# Altium schematic symbol library IOBoard.SCHLIB: 117 symbols (part 1 of 2)
Pins are listed as number, name and electrical type; pins without a type are passive.

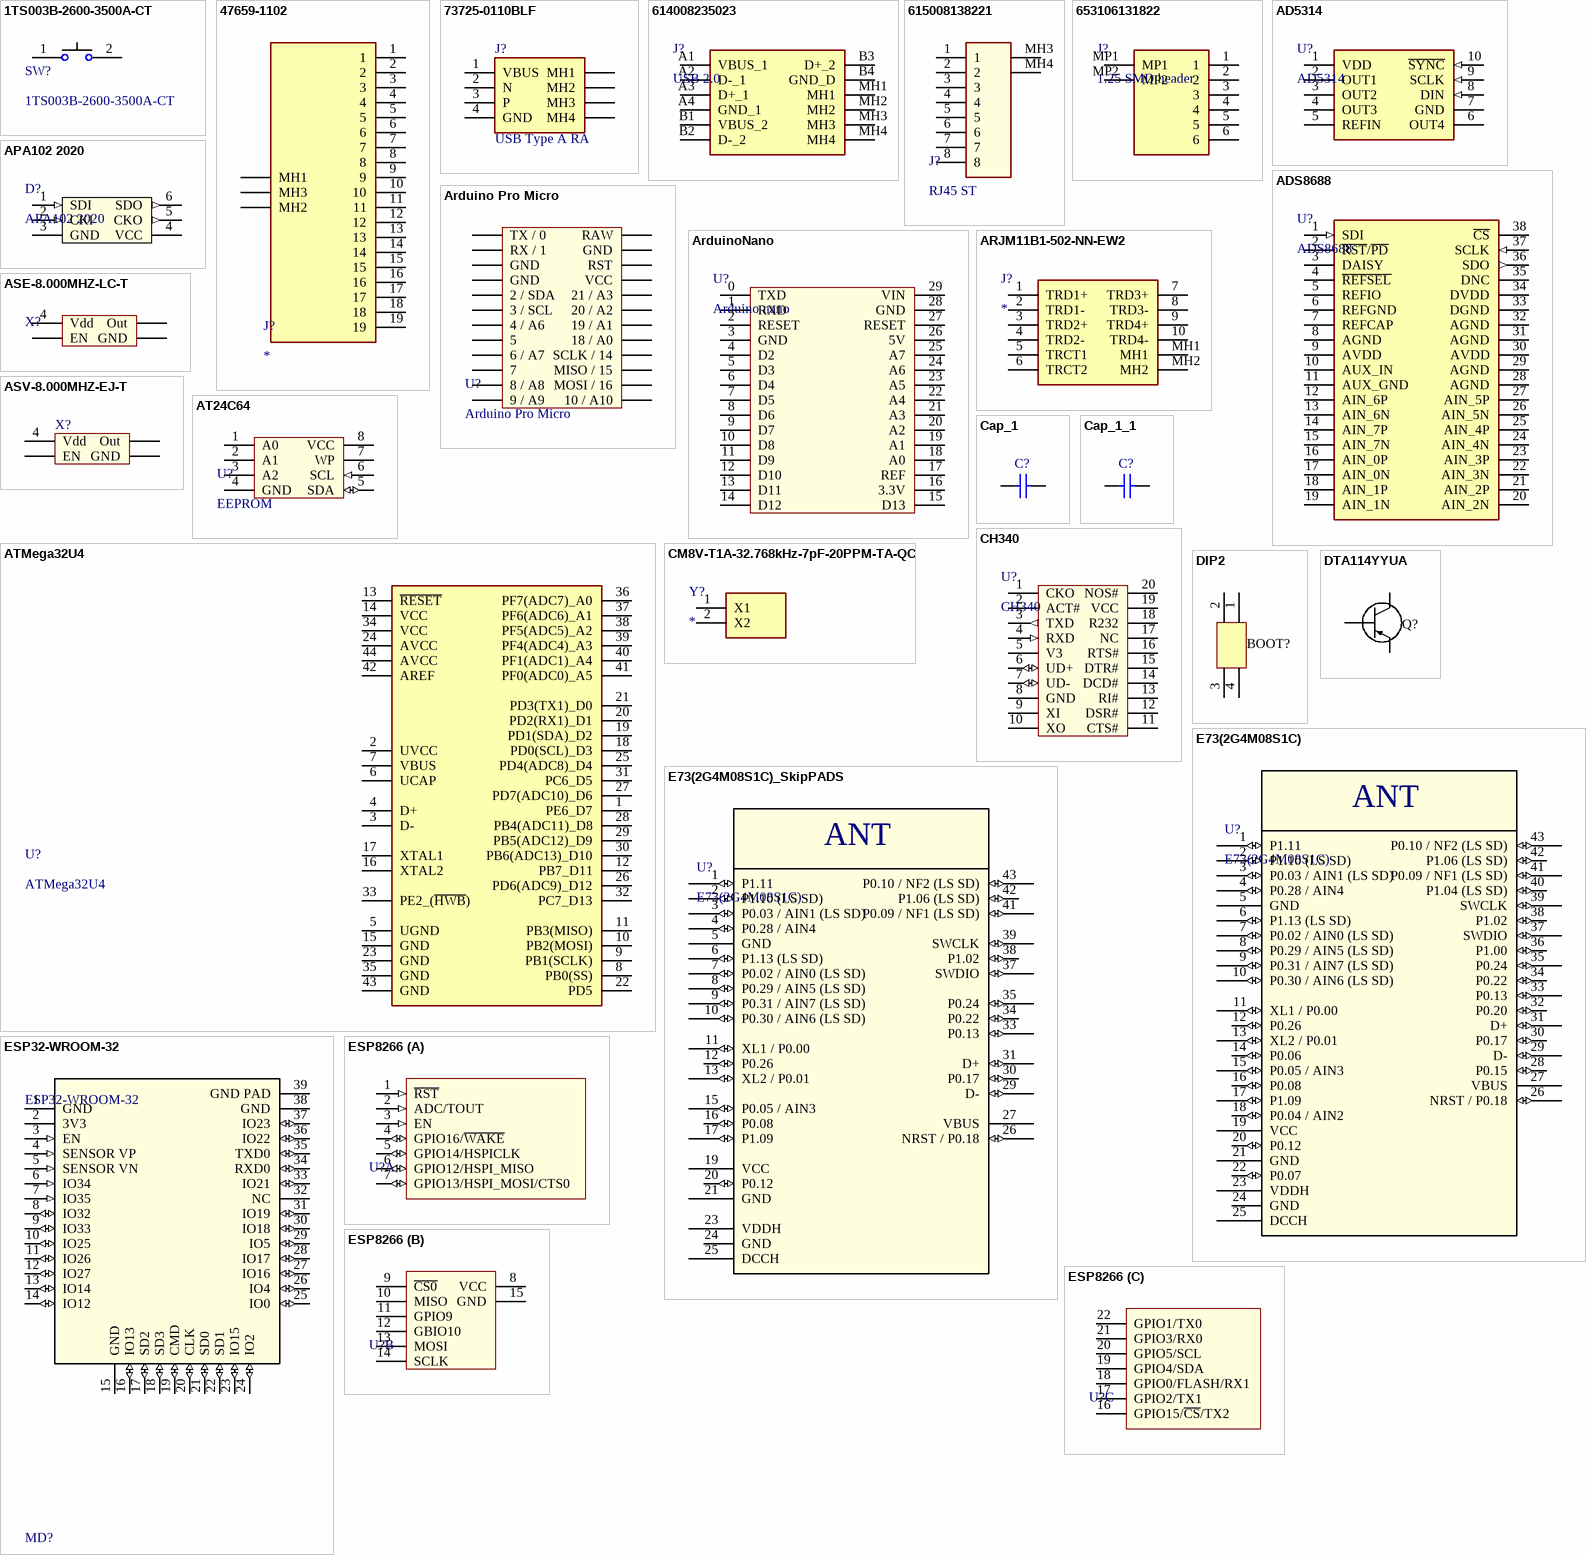
[diagram p0: symbols 1TS003B-2600-3500A-CT to ESP8266]

## 1TS003B-2600-3500A-CT
designator SW?
TACTILE switch 12V 50mA
footprint 1TS003B-2600-3500A-CT (TACT_SW)
pins: 1, 2

## 47659-1102
designator J?
HDMI SMD Vertical Connector; Manufacturer_Name: Molex; Manufacturer_Part_Number: 47659-1102; Datasheet Link: https://www.mouser.com/datasheet/2/276/0476591102_IO_CONNECTORS-1710889.pdf; Height: 8.5mm; Mouser Part Number: 538-47659-1102; Mouser Price/Stock: https://www.mouser.co.uk/ProductDetail/Molex/47659-1102?qs=xZ%2FP%252Ba9zWqbh%252BsszGgwW0w%3D%3D
footprint 476591102 (HDMI Connector)
pins: 1, 2, 3, 4, 5, 6, 7, 8, 9, 10, 11, 12, 13, 14, 15, 16, 17, 18, 19, MH1, MH2, MH3

## 73725-0110BLF
designator J?, comment USB Type A RA
USB Type A right angle straight connector; Manufacturer_Name: Amphenol; Manufacturer_Part_Number: 73725-0110BLF; Allied_Number: 70236758; Datasheet Link: http://uk.rs-online.com/web/p/products/1738660; Height: 14.03mm; RS Part Number: 1738660; RS Price/Stock: http://uk.rs-online.com/web/p/products/1738660
footprint USB_type_A_RA_Vertical
pins: 1 VBUS, 2 N, 3 P, 4 GND, MH1, MH2, MH3, MH4

## 614008235023
designator J?, comment USB 2.0
USB Connectors WR-COM Type A 2x4 Vertcl Dual Feml; Manufacturer_Name: Wurth Elektronik; Manufacturer_Part_Number: 614008235023; Datasheet Link: http://katalog.we-online.de/em/datasheet/614008235023.pdf; Height: 16mm; Mouser Part Number: 710-614008235023; Mouser Price/Stock: https://www.mouser.co.uk/ProductDetail/Wurth-Elektronik/614008235023?qs=rS3zZhy2AQP6TSxAYKTnAw%3D%3D
footprint 614008235023
pins: A1 VBUS_1, A2 D-_1, A3 D+_1, A4 GND_1, B1 VBUS_2, B2 D-_2, B3 D+_2, B4 GND_D, MH1, MH2, MH3, MH4

## 615008138221
designator J?, comment RJ45 ST
RJ45 shielded ST / ssam footprint  as risym
footprint 615008138221 (RJ45 Shielded Straight)
pins: 1, 2, 3, 4, 5, 6, 7, 8, MH3 9, MH4 10

## 653106131822
designator J?, comment 1.25 SMD header
WR-WTB 1.25 mm SMT Male Horizontal Shrouded Header; Manufacturer_Name: Wurth Elektronik; Manufacturer_Part_Number: 653106131822; Datasheet Link: http://katalog.we-online.com/em/datasheet/6531xx131822.pdf; Height: 3.55mm
footprint 653106131822
pins: 1, 2, 3, 4, 5, 6, MP1, MP2

## AD5314
designator U?
10-bit DAC 4 channel
footprint MSOP10_no_EP (MSOP10 package)
pins: 1 VDD (power), 2 OUT1, 3 OUT2, 4 OUT3, 5 REFIN, 6 OUT4, 7 GND (power), 8 DIN (in), 9 SCLK (in), 10 ~{SYNC} (in)

## ADS8688
designator U?
ADC 8 channel, 500KSPS
footprint TSSOP38 (TSSOP 38 pin package)
pins: 1 SDI (in), 2 ~{RST}/~{PD}, 3 DAISY, 4 ~{REFSEL}, 5 REFIO, 6 REFGND (power), 7 REFCAP, 8 AGND (power), 9 AVDD (power), 10 AUX_IN, 11 AUX_GND, 12 AIN_6P, 13 AIN_6N, 14 AIN_7P, 15 AIN_7N, 16 AIN_0P, 17 AIN_0N, 18 AIN_1P, 19 AIN_1N, 20 AIN_2N, 21 AIN_2P, 22 AIN_3N, 23 AIN_3P, 24 AIN_4N, 25 AIN_4P, 26 AIN_5N, 27 AIN_5P, 28 AGND (power), 29 AGND (power), 30 AVDD (power), 31 AGND (power), 32 AGND (power), 33 DGND (power), 34 DVDD (power), 35 DNC, 36 SDO (out), 37 SCLK (in), 38 ~{CS}

## APA102 2020
designator D?
RGB LED 2mm x 2mm
footprint APA102 LED (RGB LED 2x2mm)
pins: 1 SDI (in), 2 CKI (in), 3 GND (power), 4 VCC (power), 5 CKO (out), 6 SDO (out)

## Arduino Pro Micro
designator U?
footprint Arduino Pro Module
pins: 1 TX / 0 (power), 2 RX / 1 (power), 3 GND (power), 4 GND (power), 5 2 / SDA (power), 6 3 / SCL (power), 7 4 / A6 (power), 8 5 (power), 9 6 / A7 (power), 10 7 (power), 11 8 / A8 (power), 12 9 / A9 (power), 13 10 / A10 (power), 14 MOSI / 16 (power), 15 MISO / 15 (power), 16 SCLK / 14 (power), 17 18 / A0 (power), 18 19 / A1 (power), 19 20 / A2 (power), 20 21 / A3 (power), 21 VCC (power), 22 RST (power), 23 GND (power), 24 RAW (power)

## ArduinoNano
designator U?, comment Arduino nano
Arduino nano shield pin out
footprint Arduino_Nano
pins: 0 TXD, 1 RXD, 2 RESET, 3 GND, 4 D2, 5 D3, 6 D4, 7 D5, 8 D6, 9 D7, 10 D8, 11 D9, 12 D10, 13 D11, 14 D12, 15 D13, 16 3.3V, 17 REF, 18 A0, 19 A1, 20 A2, 21 A3, 22 A4, 23 A5, 24 A6, 25 A7, 26 5V, 27 RESET, 28 GND, 29 VIN

## ARJM11B1-502-NN-EW2
designator J?
Connector; Manufacturer_Name: ABRACON; Manufacturer_Part_Number: ARJM11B1-502-NN-EW2; Datasheet Link: https://www.mouser.com/datasheet/2/3/ARJM11-1145012.pdf; Height: 13.6mm; Mouser Part Number: 815-RJM11B1502NNEW2; Mouser Price/Stock: https://www.mouser.co.uk/ProductDetail/ABRACON/ARJM11B1-502-NN-EW2?qs=YCa%2FAAYMW03wpRniPtLh%2FQ%3D%3D; Arrow Part Number: ARJM11B1-502-NN-EW2; Arrow Price/Stock: https://www.arrow.com/en/products/arjm11b1-502-nn-ew2/abracon
footprint ARJM11C7-502-AB-ER2-T-MFG
pins: 1 TRD1+, 2 TRD1-, 3 TRD2+, 4 TRD2-, 5 TRCT1, 6 TRCT2, 7 TRD3+, 8 TRD3-, 9 TRD4+, 10 TRD4-, MH1, MH2

## ASE-8.000MHZ-LC-T
designator X?  (value not drawn)
8MHz; ComponentLink1Description: Datasheet; ComponentLink1URL: https://www.mouser.hk/ProductDetail/ABRACON/ASE-8000MHZ-LC-T?qs=ShQ8XZQtgRsRMJ3lmGY0Sw%3D%3D
footprint ASE Series (Footprint used for ASE SERIES standard clock oscillator)
pins: 1 EN "Tri-state enable disable", 2 GND, 3 Out, 4 Vdd

## ASV-8.000MHZ-EJ-T
designator X?  (value not drawn)
3.3Vdc HCMOS SMD Crystal Clock Oscillator; Manufacturer: Abracon; VDD: 3.3V; Frequency: 8.000MHz
footprint ASV SERIES (Footprint used for ASV SERIES standard clock oscillator)
pins: 1 EN "Tri-state enable disable", 2 GND, 3 Out, 4 Vdd

## AT24C64
designator U?, comment EEPROM
64K EEPROM
footprint SOP8
footprint SOIC127P600X175-8AN (SOIC, 8-Leads, Body 4.9x3.9mm, Pitch 1.27mm, IPC Medium Density)
pins: 1 A0, 2 A1, 3 A2, 4 GND (power), 5 SDA (io), 6 SCL (in), 7 WP, 8 VCC (power)

## ATMega32U4
designator U?
3.3V 8MHz, 5V 16MHz for operation
footprint QFP80P900X900X120-32N
pins: 1 PE6_D7, 2 UVCC, 3 D-, 4 D+, 5 UGND, 6 UCAP, 7 VBUS, 8 PB0(SS), 9 PB1(SCLK), 10 PB2(MOSI), 11 PB3(MISO), 12 PB7_D11, 13 ~{RESET}, 14 VCC, 15 GND, 16 XTAL2, 17 XTAL1, 18 PD0(SCL)_D3, 19 PD1(SDA)_D2, 20 PD2(RX1)_D1, 21 PD3(TX1)_D0, 22 PD5, 23 GND, 24 AVCC, 25 PD4(ADC8)_D4, 26 PD6(ADC9)_D12, 27 PD7(ADC10)_D6, 28 PB4(ADC11)_D8, 29 PB5(ADC12)_D9, 30 PB6(ADC13)_D10, 31 PC6_D5, 32 PC7_D13, 33 PE2_(~{HWB}), 34 VCC, 35 GND, 36 PF7(ADC7)_A0, 37 PF6(ADC6)_A1, 38 PF5(ADC5)_A2, 39 PF4(ADC4)_A3, 40 PF1(ADC1)_A4, 41 PF0(ADC0)_A5, 42 AREF, 43 GND, 44 AVCC

## Cap_1
designator C?, comment Cap  (value not drawn)
Capacitor; Value: 10u; Published: 8-Jun-2000; LatestRevisionDate: 17-Jul-2002; LatestRevisionNote: Re-released for DXP Platform.; PackageReference: RAD-0.3; Publisher: Altium Limited; PackageDescription: Radial Cap, Thru-Hole; 2 Leads; 0.3 in Pin Spacing
footprint RAD-0.3 (Radial Cap, Thru-Hole; 2 Leads; 0.3 in Pin Spacing)
simulation model CAP (Capacitor)
signal-integrity model Cap
footprint CAPC3216X175N (Chip Capacitor, Body 3.2x1.6mm, 1.75mm H, EIA 1206, IPC Medium Density)
footprint CAPC2012X135N (Chip Capacitor, Body 2.0x1.2mm, EIA 0805, IPC Medium Density)
footprint CAPC1608X90N (Chip Capacitor, Body 1.6x0.8mm, EIA 0603, IPC Medium Density)
pins: 1, 2

## Cap_1_1
designator C?, comment Cap  (value not drawn)
Capacitor; Value: 4.7u; Published: 8-Jun-2000; LatestRevisionDate: 17-Jul-2002; LatestRevisionNote: Re-released for DXP Platform.; PackageReference: RAD-0.3; Publisher: Altium Limited; PackageDescription: Radial Cap, Thru-Hole; 2 Leads; 0.3 in Pin Spacing
footprint RAD-0.3 (Radial Cap, Thru-Hole; 2 Leads; 0.3 in Pin Spacing)
simulation model CAP (Capacitor)
signal-integrity model Cap
footprint CAPC3216X175N (Chip Capacitor, Body 3.2x1.6mm, 1.75mm H, EIA 1206, IPC Medium Density)
pins: 1, 2

## CH340
designator U?
USB to UART transciever
footprint SOP20
pins: 1 CKO, 2 ACT#, 3 TXD (out), 4 RXD (in), 5 V3 (power), 6 UD+ (io), 7 UD- (io), 8 GND, 9 XI, 10 XO, 11 CTS#, 12 DSR#, 13 RI#, 14 DCD#, 15 DTR#, 16 RTS#, 17 NC, 18 R232, 19 VCC (power), 20 NOS#

## CM8V-T1A-32.768kHz-7pF-20PPM-TA-QC
designator Y?
32kHz Crystal or Oscillator; Manufacturer_Name: Micro Crystal AG; Manufacturer_Part_Number: CM8V-T1A-32.768kHz-7pF-20PPM-TA-QC; Datasheet Link: https://www.mouser.de/datasheet/2/530/CM8V_T1A-1510858.pdf; Height: 0.6mm; Mouser Part Number: 428-201436-MC01; Mouser Price/Stock: https://www.mouser.co.uk/ProductDetail/Micro-Crystal/CM8V-T1A-32768kHz-7pF-20PPM-TA-QC?qs=7bTaA%2FLYtSYyZWzzv04BxA%3D%3D
footprint CM8V32768TA020125
pins: 1 X1, 2 X2

## DIP2
designator BOOT?, comment DIP 2 position switch  (value not drawn)
footprint DIP2-SWT
pins: 1, 2, 3, 4

## DTA114YYUA
designator Q?  (value not drawn)
PNP -100mA -50V Digital Transistor (Bias Resistor Built-in Transistor); Manufacturer: ROHM
footprint SOT323 (Small outline 2.1mm L x 1.25mm W x 1.1mm H; 3 lead SC70, EIAJ SC-70, SOT323)
pins: 1 B "base", 2 E "Emitter", 3 C "Collector"

## E73(2G4M08S1C)
designator U?
nRF52480 module from taobao; ComponentLink1Description: Taobao; ComponentLink1URL: https://item.taobao.com/item.htm?spm=a1z02.1.2016030118.d2016038.hHY5VD&id=521330374834&scm=1007.10157.81291.100200300000000&pvid=aa85dd00-51f4-4baa-a4bf-cd488740a8e2; ComponentLink2Description: Manufacture; ComponentLink2URL: https://www.ebyte.com/product-view-news.html?id=444
footprint E73(2G4M08S1C)
pins: 1 P1.11 (io), 2 P1.10 (LS SD) (io), 3 P0.03 / AIN1 (LS SD) (io), 4 P0.28 / AIN4 (io), 5 GND (power), 6 P1.13 (LS SD) (io), 7 P0.02 / AIN0 (LS SD) (io), 8 P0.29 / AIN5 (LS SD) (io), 9 P0.31 / AIN7 (LS SD) (io), 10 P0.30 / AIN6 (LS SD) (io), 11 XL1 / P0.00 (io), 12 P0.26 (io), 13 XL2 / P0.01 (io), 14 P0.06 (io), 15 P0.05 / AIN3  (io), 16 P0.08 (io), 17 P1.09 (io), 18 P0.04 / AIN2 (io), 19 VCC (power), 20 P0.12 (io), 21 GND (power), 22 P0.07 (io), 23 VDDH (power), 24 GND (power), 25 DCCH (power), 26 NRST / P0.18 (io), 27 VBUS (power), 28 P0.15 (io), 29 D- (io), 30 P0.17 (io), 31 D+ (io), 32 P0.20 (io), 33 P0.13 (io), 34 P0.22 (io), 35 P0.24 (io), 36 P1.00 (io), 37 SWDIO (io), 38 P1.02 (io), 39 SWCLK (io), 40 P1.04 (LS SD) (io), 41 P0.09 / NF1 (LS SD) (io), 42 P1.06 (LS SD) (io), 43 P0.10 / NF2 (LS SD) (io)
text: ANT

## E73(2G4M08S1C)_SkipPADS
designator U?, comment E73(2G4M08S1C)
nRF52480 module from taobao; ComponentLink1Description: Taobao; ComponentLink1URL: https://item.taobao.com/item.htm?spm=a1z02.1.2016030118.d2016038.hHY5VD&id=521330374834&scm=1007.10157.81291.100200300000000&pvid=aa85dd00-51f4-4baa-a4bf-cd488740a8e2; ComponentLink2Description: Manufacture; ComponentLink2URL: https://www.ebyte.com/product-view-news.html?id=444
footprint E73(2G4M08S1C)_skippedPADS
pins: 1 P1.11 (io), 2 P1.10 (LS SD) (io), 3 P0.03 / AIN1 (LS SD) (io), 4 P0.28 / AIN4 (io), 5 GND (power), 6 P1.13 (LS SD) (io), 7 P0.02 / AIN0 (LS SD) (io), 8 P0.29 / AIN5 (LS SD) (io), 9 P0.31 / AIN7 (LS SD) (io), 10 P0.30 / AIN6 (LS SD) (io), 11 XL1 / P0.00 (io), 12 P0.26 (io), 13 XL2 / P0.01 (io), 15 P0.05 / AIN3  (io), 16 P0.08 (io), 17 P1.09 (io), 19 VCC (power), 20 P0.12 (io), 21 GND (power), 23 VDDH (power), 24 GND (power), 25 DCCH (power), 26 NRST / P0.18 (io), 27 VBUS (power), 29 D- (io), 30 P0.17 (io), 31 D+ (io), 33 P0.13 (io), 34 P0.22 (io), 35 P0.24 (io), 37 SWDIO (io), 38 P1.02 (io), 39 SWCLK (io), 41 P0.09 / NF1 (LS SD) (io), 42 P1.06 (LS SD) (io), 43 P0.10 / NF2 (LS SD) (io)
text: ANT

## ESP32-WROOM-32
designator MD?
RX TXRX MOD WIFI SURFACE MOUNT; Frequency: 2.5GHz; Sensitivity: -98dBm; Operating Supply Voltage: 3.6V; Data Rate: 150Mbps; Weight: 0.088185oz; Package Quantity: 550; Min Operating Temperature: -40°C; Mount: Surface Mount; Max Operating Temperature: 85°C; Packaging: Cut Tape; Case/Package: SMD/SMT
footprint ESP32-WROOM-32-MFG
pins: 1 GND (power), 2 3V3 (power), 3 EN (in), 4 SENSOR VP (in), 5 SENSOR VN (in), 6 IO34 (in), 7 IO35 (in), 8 IO32 (io), 9 IO33 (io), 10 IO25 (io), 11 IO26 (io), 12 IO27 (io), 13 IO14 (io), 14 IO12 (io), 15 GND (power), 16 IO13 (io), 17 SD2 (io), 18 SD3 (io), 19 CMD (io), 20 CLK (io), 21 SD0 (io), 22 SD1 (io), 23 IO15 (io), 24 IO2 (io), 25 IO0 (io), 26 IO4 (io), 27 IO16 (io), 28 IO17 (io), 29 IO5 (io), 30 IO18 (io), 31 IO19 (io), 32 NC, 33 IO21 (io), 34 RXD0 (io), 35 TXD0 (io), 36 IO22 (io), 37 IO23 (io), 38 GND (power), 39 GND PAD (power)

## ESP8266
designator U?  (value not drawn)
ESP8266 with IoT Stuff; VCC: 3.3V
footprint ESP-12E
part A pins: 1 ~{RST} (in), 2 ADC/TOUT (in), 3 EN (in), 4 GPIO16/~{WAKE} (io), 5 GPIO14/HSPICLK (io), 6 GPIO12/HSPI_MISO (io), 7 GPIO13/HSPI_MOSI/CTS0 (io)
part B pins: 8 VCC (power), 9 ~{CS0} (power), 10 MISO (power), 11 GPIO9 (power), 12 GBIO10 (power), 13 MOSI (power), 14 SCLK (power), 15 GND (power)
part C pins: 16 GPIO15/~{CS}/TX2 (power), 17 GPIO2/TX1 (power), 18 GPIO0/FLASH/RX1 (power), 19 GPIO4/SDA (power), 20 GPIO5/SCL (power), 21 GPIO3/RX0 (power), 22 GPIO1/TX0 (power)

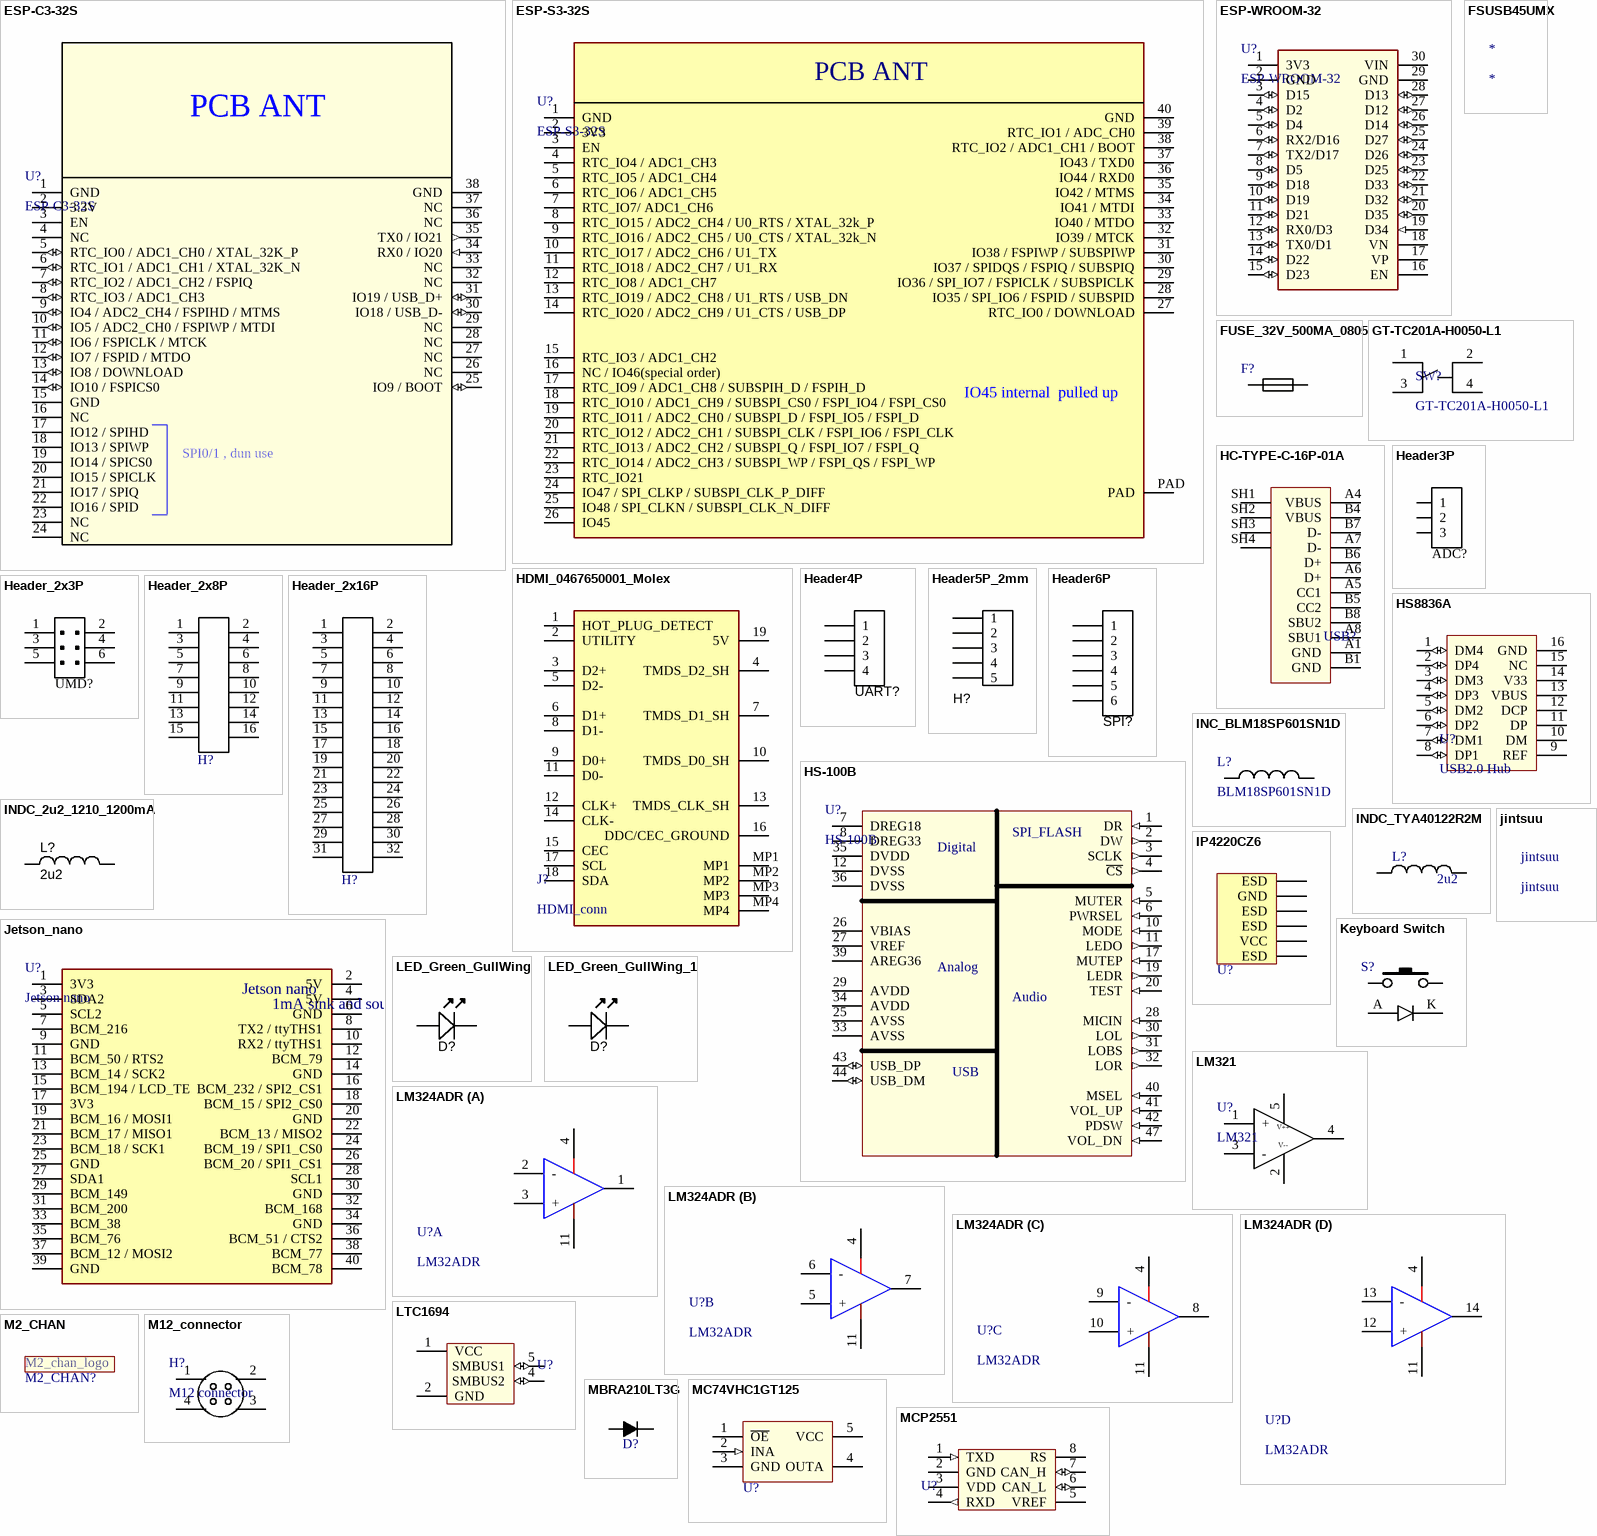
[diagram p1: symbols ESP-C3-32S to MCP2551]

## ESP-C3-32S
designator U?
ESP-C3-32S from AI-thinker
footprint ESP-C3-32S (ESP-S3-32S footprint for AI-Thinker Module)
pins: 1 GND (power), 2 3.3V (power), 3 EN (power), 4 NC (power), 5 RTC_IO0 / ADC1_CH0 / XTAL_32K_P (io), 6 RTC_IO1 / ADC1_CH1 / XTAL_32K_N (io), 7 RTC_IO2 / ADC1_CH2 / FSPIQ (io), 8 RTC_IO3 / ADC1_CH3 (io), 9 IO4 / ADC2_CH4 / FSPIHD / MTMS (io), 10 IO5 / ADC2_CH0 / FSPIWP / MTDI (io), 11 IO6 / FSPICLK / MTCK (io), 12 IO7 / FSPID / MTDO (io), 13 IO8 / DOWNLOAD (io), 14 IO10 / FSPICS0 (io), 15 GND (power), 16 NC (power), 17 IO12 / SPIHD (power), 18 IO13 / SPIWP (power), 19 IO14 / SPICS0 (power), 20 IO15 / SPICLK (power), 21 IO17 / SPIQ (power), 22 IO16 / SPID (power), 23 NC, 24 NC, 25 IO9 / BOOT (io), 26 NC, 27 NC, 28 NC, 29 NC, 30 IO18 / USB_D- (io), 31 IO19 / USB_D+ (io), 32 NC, 33 NC, 34 RX0 / IO20 (in), 35 TX0 / IO21 (out), 36 NC, 37 NC, 38 GND (power)
text: PCB ANT; SPI0/1 , dun use

## ESP-S3-32S
designator U?
ESP-S3-32S from AI-thinker w/ 8MB Flash; Manufacturer_Name: Espressif Systems; Manufacturer_Part_Number: ESP32-S3-WROOM-1; Datasheet Link: https://www.mouser.com/catalog/specsheets/Espressif_ESP32_S3_WROOM_1_1U_Preliminary.pdf; Height: 3.25mm
footprint ESP32S3WROOM1
pins: 1 GND, 2 3V3, 3 EN, 4 RTC_IO4 / ADC1_CH3, 5 RTC_IO5 / ADC1_CH4, 6 RTC_IO6 / ADC1_CH5, 7 RTC_IO7/ ADC1_CH6, 8 RTC_IO15 / ADC2_CH4 / U0_RTS / XTAL_32k_P, 9 RTC_IO16 / ADC2_CH5 / U0_CTS / XTAL_32k_N, 10 RTC_IO17 / ADC2_CH6 / U1_TX, 11 RTC_IO18 / ADC2_CH7 / U1_RX, 12 RTC_IO8 / ADC1_CH7, 13 RTC_IO19 / ADC2_CH8 / U1_RTS / USB_DN, 14 RTC_IO20 / ADC2_CH9 / U1_CTS / USB_DP, 15 RTC_IO3 / ADC1_CH2, 16 NC / IO46(special order), 17 RTC_IO9 / ADC1_CH8 / SUBSPIH_D / FSPIH_D, 18 RTC_IO10 / ADC1_CH9 / SUBSPI_CS0 / FSPI_IO4 / FSPI_CS0, 19 RTC_IO11 / ADC2_CH0 / SUBSPI_D / FSPI_IO5 / FSPI_D, 20 RTC_IO12 / ADC2_CH1 / SUBSPI_CLK / FSPI_IO6 / FSPI_CLK, 21 RTC_IO13 / ADC2_CH2 / SUBSPI_Q / FSPI_IO7 / FSPI_Q, 22 RTC_IO14 / ADC2_CH3 / SUBSPI_WP / FSPI_QS / FSPI_WP, 23 RTC_IO21, 24 IO47 / SPI_CLKP / SUBSPI_CLK_P_DIFF, 25 IO48 / SPI_CLKN / SUBSPI_CLK_N_DIFF, 26 IO45, 27 RTC_IO0 / DOWNLOAD, 28 IO35 / SPI_IO6 / FSPID / SUBSPID, 29 IO36 / SPI_IO7 / FSPICLK / SUBSPICLK, 30 IO37 / SPIDQS / FSPIQ / SUBSPIQ, 31 IO38 / FSPIWP / SUBSPIWP, 32 IO39 / MTCK, 33 IO40 / MTDO, 34 IO41 / MTDI, 35 IO42 / MTMS, 36 IO44 / RXD0, 37 IO43 / TXD0, 38 RTC_IO2 / ADC1_CH1 / BOOT, 39 RTC_IO1 / ADC_CH0, 40 GND, PAD
text: PCB ANT; IO45 internal  pulled up

## ESP-WROOM-32
designator U?
ESP-WROOM-32 MODULE; ComponentLink1Description: taobao; ComponentLink1URL: *https://item.taobao.com/item.htm?spm=a230r.1.14.91.721985a3302TG9&id=564776492972&ns=1&abbucket=9#detail
footprint ESP_WROOM_32 (ESP WROOM 32 SHIELD pinout)
footprint ESP_WROOM_32_SMD
pins: 1 3V3 (power), 2 GND (power), 3 D15 (io), 4 D2 (io), 5 D4 (io), 6 RX2/D16 (io), 7 TX2/D17 (io), 8 D5 (io), 9 D18 (io), 10 D19 (io), 11 D21 (io), 12 RX0/D3 (io), 13 TX0/D1 (io), 14 D22 (io), 15 D23 (io), 16 EN, 17 VP, 18 VN, 19 D34 (in), 20 D35 (io), 21 D32 (io), 22 D33 (io), 23 D25 (io), 24 D26 (io), 25 D27 (io), 26 D14 (io), 27 D12 (io), 28 D13 (io), 29 GND (power), 30 VIN (power)

## FSUSB45UMX
designator *

## FUSE_32V_500MA_0805
designator F?, comment MFU0805FF00500P100  (value not drawn)
fuse 32V 0.5A
footprint RESC2012X70N
pins: 1, 2

## GT-TC201A-H0050-L1
designator SW?
TACT Switch
footprint SW_TACT_3x2.8
pins: 1 (power), 2 (power), 3 (power), 4 (power)

## HC-TYPE-C-16P-01A
designator USB?, comment USB type C connector  (value not drawn)
ComponentLink1Description: Datasheet; ComponentLink1URL: https://lcsc.com/product-detail/USB-Type-C_Korean-Hroparts-Elec-TYPE-C-31-M-12_C165948.html
footprint TYPE-C-31-M-12 (type C connector)
pins: A1 GND (power), A4 VBUS (power), A5 CC1 (power), A6 D+ (power), A7 D- (power), A8 SBU1 (power), B1 GND (power), B4 VBUS (power), B5 CC2 (power), B6 D+ (power), B7 D- (power), B8 SBU2 (power), SH1 (power), SH2 (power), SH3 (power), SH4 (power)

## HDMI_0467650001_Molex
designator J?, comment HDMI_conn
SMD HDMI Port
footprint HDMI_0467650001_Molex (hdmi connector SMD)
pins: 1 HOT_PLUG_DETECT, 2 UTILITY, 3 D2+, 4 TMDS_D2_SH, 5 D2-, 6 D1+, 7 TMDS_D1_SH, 8 D1-, 9 D0+, 10 TMDS_D0_SH, 11 D0-, 12 CLK+, 13 TMDS_CLK_SH, 14 CLK-, 15 CEC, 16 DDC/CEC_GROUND, 17 SCL, 18 SDA, 19 5V, MP1, MP2, MP3, MP4

## Header3P
designator ADC?, comment Header  (value not drawn)
Header 3-pin
footprint 1x3POS_HEADER (Connector Header, Single-row 3-position, 0.100" pitch)
footprint 1x3POS_HEADER_LOWPROF (Connector Header, Single-row 3-position, 0.100" pitch)
footprint 1x3POS_HEAD-SOCK_LOWPROF (Connector Socket with header, Single-row 3-position, 0.100" pitch)
footprint 3P_HDR_OPTO (Connector; screwterm; 3 Position)
pins: 1, 2, 3

## Header4P
designator UART?, comment Programmer  (value not drawn)  (no BOM)
Header 4-pin
footprint HDR1X4_1.27MMP (Connector; Header; 4 Position, 0.050" pitch)
footprint HDR1X4_2.54MMP (Connector; Header; 4 Position 0.100" pitch)
footprint CONN_FLATFLEX_4C_1MMP_5MML
footprint CONN_FLATFLEX_4C_1MMP_3MML_TOP
footprint CONN_FLATFLEX_4C_1MMP_3MML_BOT
pins: 1, 2, 3, 4

## Header5P_2mm
designator H?, comment 2mm 5P  (value not drawn)  (no BOM)
Header5P_2mm
footprint HDR_1X5_2.00MM (5 position striaght 2mm pitch)
pins: 1, 2, 3, 4, 5

## Header6P
designator SPI?, comment Programmer  (value not drawn)  (no BOM)
Header, 6-pin
footprint HDR1X6 (Connector; Header; 6 Position)
pins: 1, 2, 3, 4, 5, 6

## Header_2x3P
designator UMD?, comment Header, 2x3-pin  (value not drawn)
footprint HDR2X3_2.54MMP_RA (2 x 3 pin header right angle)
pins: 1, 2, 3, 4, 5, 6

## Header_2x8P
designator H?, comment Header  (value not drawn)
Header, 2x8-pin
footprint 2x8P_HEADER_FLIP (2 x 8 pins header lol)
footprint 2x8P_HEADER (2 x 8 pins header lol)
pins: 1, 2, 3, 4, 5, 6, 7, 8, 9, 10, 11, 12, 13, 14, 15, 16

## Header_2x16P
designator H?, comment Header  (value not drawn)
Header, 2x16-Pin
footprint 2X16_HEADER_FLIP
footprint 2X16_HEADER
pins: 1, 2, 3, 4, 5, 6, 7, 8, 9, 10, 11, 12, 13, 14, 15, 16, 17, 18, 19, 20, 21, 22, 23, 24, 25, 26, 27, 28, 29, 30, 31, 32

## HS8836A
designator U?, comment USB2.0 Hub
USB Hub
footprint SO16
pins: 1 DM4 (io), 2 DP4 (io), 3 DM3 (io), 4 DP3 (io), 5 DM2 (io), 6 DP2 (io), 7 DM1 (io), 8 DP1 (io), 9 REF, 10 DM, 11 DP, 12 DCP, 13 VBUS (power), 14 V33 (power), 15 NC, 16 GND (power)

## HS-100B
designator U?
HS-100B USB to DAC and ADC
footprint LQFP-48_N (Thin QFP, 48-Leads, Body 7x7mm, Pitch 0.5mm, IPC Medium Density)
pins: 1 DR (in), 2 DW (out), 3 SCLK (out), 4 ~{CS} (out), 5 MUTER (in), 6 PWRSEL (in), 7 DREG18 (power), 8 DREG33 (power), 10 MODE (in), 11 LEDO (out), 12 DVSS (power), 17 MUTEP (in), 19 LEDR (out), 20 TEST (in), 25 AVSS (power), 26 VBIAS (power), 27 VREF (power), 28 MICIN (in), 29 AVDD (power), 30 LOL (out), 31 LOBS (out), 32 LOR (out), 33 AVSS (power), 34 AVDD (power), 35 DVDD (power), 36 DVSS (power), 39 AREG36 (power), 40 MSEL (in), 41 VOL_UP (in), 42 PDSW (in), 43 USB_DP (io), 44 USB_DM (io), 47 VOL_DN (in)
text: SPI_FLASH; Digital; Analog; Audio; USB

## INC_BLM18SP601SN1D
designator L?, comment BLM18SP601SN1D
Ferritebead 1.5A, max 600ohm resistance
footprint INDC1608N (Chip bead, Body 1.6x0.8mm, 0603, IPC Medium Density)
pins: 1, 2

## INDC_2u2_1210_1200mA
designator L?, comment value 2u2  (hidden comment: NLCV32T)
Inductor 2.2uH 1.2A 1210 SMD chip; Manufacturer 1: TDK Corporation; Manufacturer Part Number 1: NLCV32T-2R2M-PFR; Ratings: 1.2 Adc; Tolerance: ±20%; Type: Ferrite Core; DC Resistance (DCR): 115 mOhm; Q @ Freq: 15 @ 7.96MHz; Frequency - Self Resonant: 68MHz; Frequency - Test: 7.96MHz; SCDType: source; Package / Case: 1210 (3225 Metric); Supplier 1: Digi-Key; Supplier Part Number 1: 445-3650-1-ND; ComponentLink1URL: http://www.tdk.co.jp/tefe02/e511_nlcv_nlc.pdf; ComponentLink1Description: http://www.tdk.co.jp/tefe02/e511_nlcv_nlc.pdf; Operating Temperature: -40°C ~ 125°C
footprint INDM3225X240N (Molded Inductor, 2-Leads, Body 3.2x2.5mm, IPC Medium Density)
footprint IND_12.2x12.2x7.6 (12.2x12.2x7.6 shield smd package for inductor)
pins: 1, 2

## INDC_TYA40122R2M
designator L?, comment value 2u2  (hidden comment: TYA40122R2M)
inductor 2.2uH, 2.8A 4mm x 4mm package, 20% tolerance; Current: 2.8A
footprint INDC_TYA4012
pins: 1, 2

## IP4220CZ6
designator U?  (value not drawn)
ESD protection for USB 2.0; Manufacturer: NXP
footprint SOT457(SC-74)
pins: 1 ESD, 2 GND, 3 ESD, 4 ESD, 5 VCC, 6 ESD

## Jetson_nano
designator U?, comment Jetson nano
footprint Jetson_Nano (Jetson nano 40pin gpio header)
pins: 1 3V3 (power), 2 5V (power), 3 SDA2, 4 5V (power), 5 SCL2, 6 GND (power), 7 BCM_216, 8 TX2 / ttyTHS1, 9 GND (power), 10 RX2 / ttyTHS1, 11 BCM_50 / RTS2, 12 BCM_79, 13 BCM_14 / SCK2, 14 GND (power), 15 BCM_194 / LCD_TE, 16 BCM_232 / SPI2_CS1, 17 3V3 (power), 18 BCM_15 / SPI2_CS0, 19 BCM_16 / MOSI1, 20 GND (power), 21 BCM_17 / MISO1, 22 BCM_13 / MISO2, 23 BCM_18 / SCK1, 24 BCM_19 / SPI1_CS0, 25 GND (power), 26 BCM_20 / SPI1_CS1, 27 SDA1, 28 SCL1, 29 BCM_149, 30 GND (power), 31 BCM_200, 32 BCM_168, 33 BCM_38, 34 GND (power), 35 BCM_76, 36 BCM_51 / CTS2, 37 BCM_12 / MOSI2, 38 BCM_77, 39 GND (power), 40 BCM_78
text: 1mA sink and source

## jintsuu
designator jintsuu
footprint jintsuu

## Keyboard Switch
designator S?  (value not drawn)
Keyboard Switch with LED; ComponentLink1Description: datasheet; ComponentLink1URL: https://www.cherrymx.de/en/dev.html
footprint KeyboardSwitch
pins: 1, 2, A (power), K (power)

## LED_Green_GullWing
designator D?  (value not drawn)
LED Gull-wing SMD High-intensity Green 450mcd 574nm; Manufacturer 1: Ligitek; Manufacturer Part Number 1: L8UG9033/TR1; Ratings: 450 mcd; 574 nm; Material: AlGaInP; SCDType: source; Package / Case: 4.6mm Gull-Wing; Color: Green
footprint LED_GULL1
footprint LED-0805-K
footprint LED-0805-A
pins: A, K

## LED_Green_GullWing_1
designator D?, comment LED_Green_GullWing  (value not drawn)
APT2012LSECK/J4-PRV; Manufacturer 1: kingbright; Ratings: 450 mcd; 574 nm; Material: AlGaInP; SCDType: source; Color: Green; Manufacturer Part Number 1: APT2012LSECK/J4-PRV; Package / Case: 4.6mm Gull-Wing
footprint LED_GULL1
footprint LED-0805-A
pins: A, K

## LM321
designator U?
OPAMP; ComponentLink1Description: purchase; ComponentLink1URL: https://lcsc.com/product-detail/Operational-Amplifier_IDCHIP-LM321_C395460.html
footprint SOT23-5
pins: 1 +, 2 GND, 3 -, 4 OUT, 5 V++
text: V--

## LM324ADR
designator U?, comment LM32ADR
Single Supply Quad Operational Amplifier, 3 to 32 V, -25 to 85 degC, 14-Pin SOIC, Pb-Free, Tube
footprint SOIC127P600X175-14N
part A pins: 1 1OUT, 2 -, 3 +, 4 VCC, 11 GND
part B pins: 4 VCC, 5 +, 6 -, 7 2OUT, 11 GND
part C pins: 4 VCC, 8 3OUT, 9 -, 10 +, 11 GND
part D pins: 4 VCC, 11 GND, 12 +, 13 -, 14 4OUT

## LTC1694
designator U?, comment SMBus/I2C Accelerator  (value not drawn)
SMBus/I2C Accelerator                                Improves SMBus/I2CTM Rise Time Transition / Ensures Data Integrity / on the SMBus/I2C / Improves Low State Noise Margin / Parallel Multiple LTC1694-1 Devices / for Increased Drive; VCC(max): 5.5V; VCC(min): 2.7V; Pull up current: 2.2mA; ComponentLink1Description: Datasheet; ComponentLink1URL: https://www.analog.com/media/en/technical-documentation/data-sheets/1694fa.pdf
footprint SOT23-5
pins: 1 VCC (power), 2 GND (power), 4 SMBUS2 (io), 5 SMBUS1 (io)

## M2_CHAN
designator M2_CHAN?  (value not drawn)
footprint M2_chan_thin (thinner line)
footprint M2_chan_thick (m2 liang)
text: M2_chan_logo

## M12_connector
designator H?, comment M12 connector
M12 connect with 4 pin, current 4A per terminal; ComponentLink1Description: Purchase; ComponentLink1URL: https://item.taobao.com/item.htm?spm=a230r.1.14.42.72f34373kzOCRP&id=571188244354&ns=1&abbucket=18#detail
footprint GX12_PCB_Mount (M12 connector pcb mounting)
pins: 1 (power), 2 (power), 3 (power), 4 (power)

## MBRA210LT3G
designator D?  (value not drawn)
Surface Mount  Schottky Power Rectifier; Manufacturer: ON semiconductor; Vf: 350mV; If: 2A; Vrrm: 10V; datasheet: http://www.mouser.com/ds/2/308/MBRA210LT3-D-76406.pdf
footprint SMA (for diode)
pins: A Anode, K Cathode

## MC74VHC1GT125
designator U?  (value not drawn)
Noninverting Buffer /  CMOS Logic Level Shifter  with LSTTL−Compatible Inputs; Manufacturer: ON Semiconductor; VDD_MAX: 7V; package choice: DT = SOT-23; datasheet: http://www.mouser.com/ds/2/308/MC74VHC1GT125-D-78788.pdf
footprint SOT353 (Small outline 2.1mm L x 1.25mm W x 1mm H; 5LD SC-70; SC-88A)
footprint SOT23-5
pins: 1 ~{OE}, 2 INA (in), 3 GND, 4 OUTA, 5 VCC

## MCP2551
designator U?  (value not drawn)
MCP2551 5-V CAN Bus Transceivers; ComponentLink1Description: Datasheet; ComponentLink1URL: https://www.ti.com/lit/ds/symlink/sn65hvd230.pdf?ts=1604457324049&ref_url=https%253A%252F%252Fwww.google.com%252F
footprint SOIC127P600X175-8AN (SOIC, 8-Leads, Body 4.9x3.9mm, Pitch 1.27mm, IPC Medium Density)
pins: 1 TXD (in), 2 GND (power), 3 VDD (power), 4 RXD (out), 5 VREF, 6 CAN_L (io), 7 CAN_H (io), 8 RS

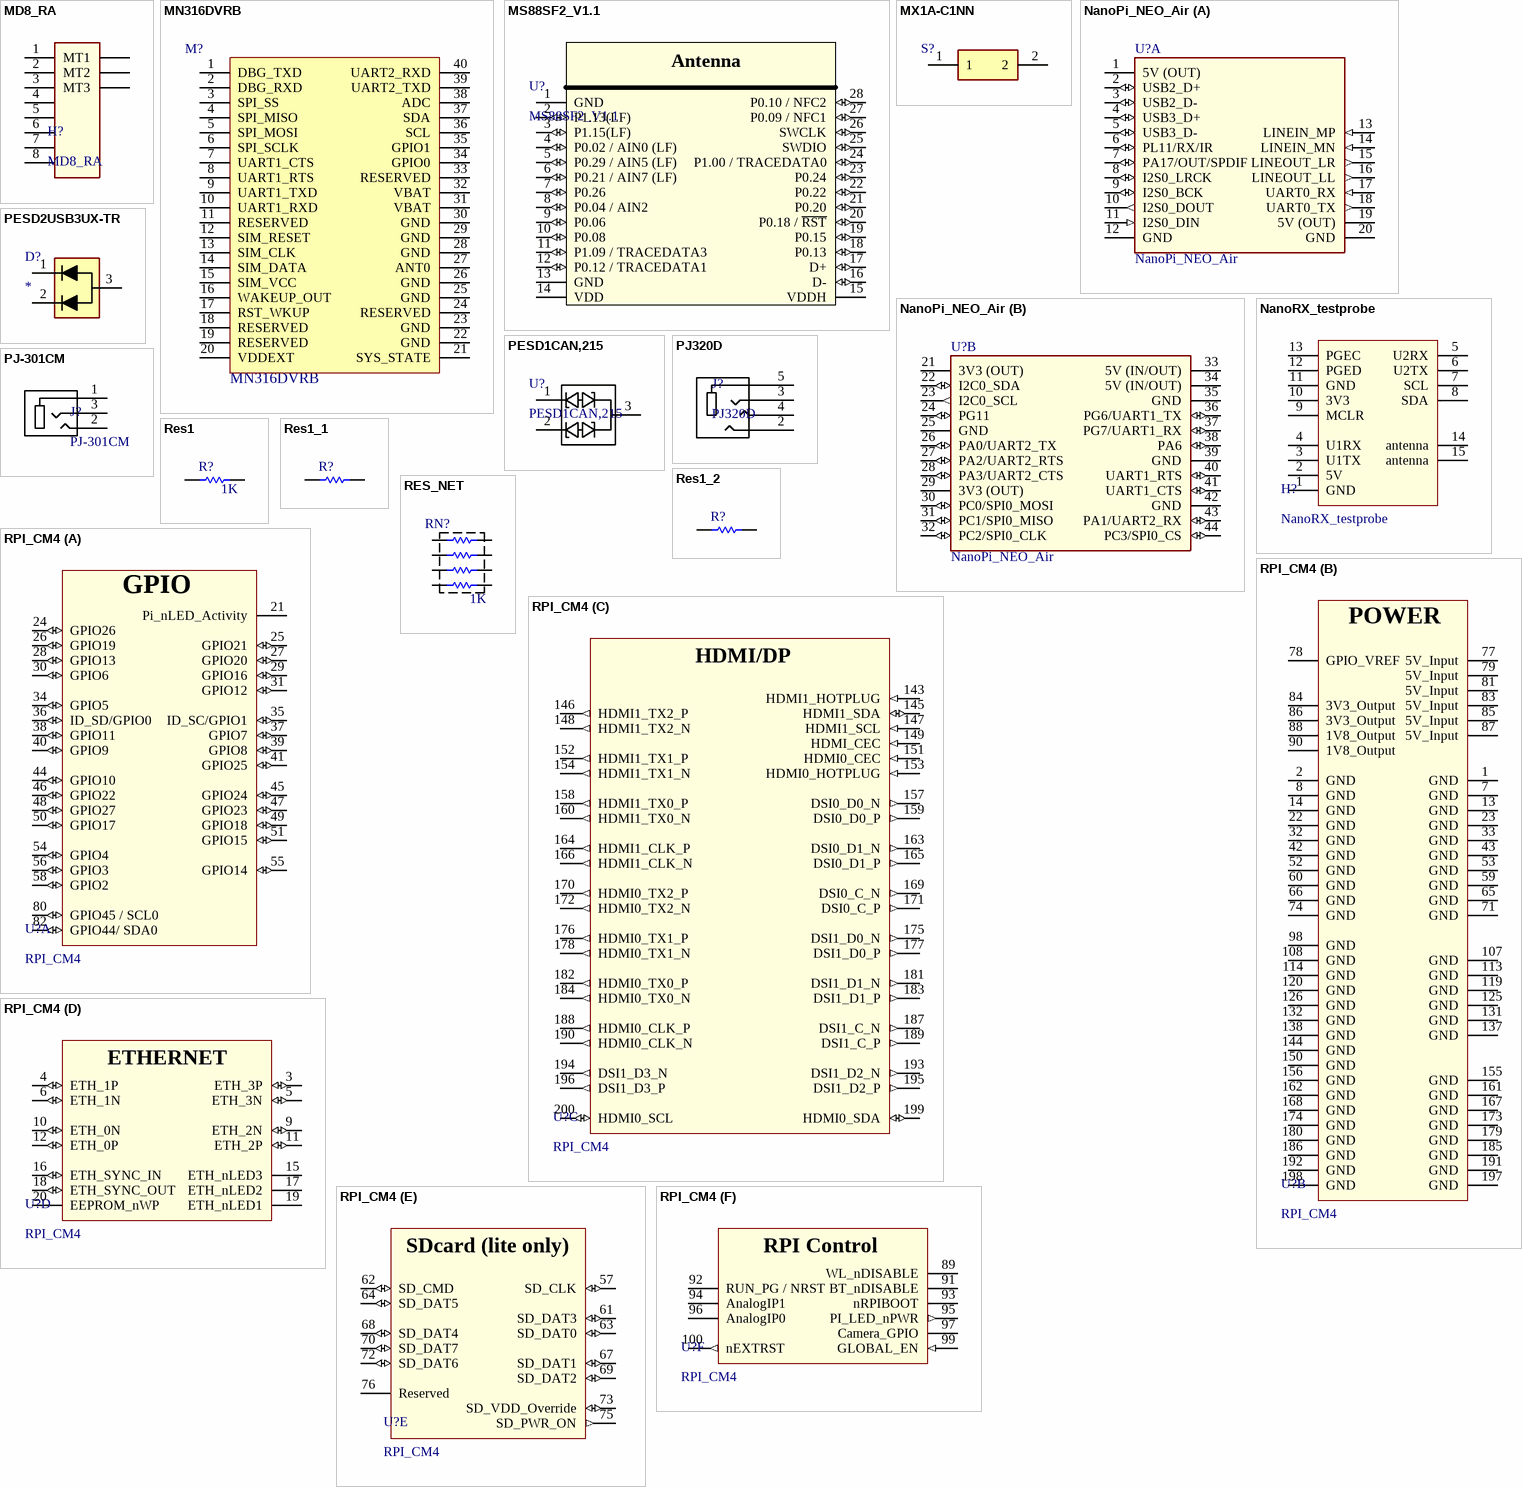
[diagram p2: symbols MD8_RA to RPI_CM4]

## MD8_RA
designator H?
MD8 Right angle connector; ComponentLink1Description: taobao; ComponentLink1URL: https://item.taobao.com/item.htm?spm=a230r.1.14.42.34fc5229tgbpHv&id=561403849390&ns=1&abbucket=6#detail
footprint MD8_RA
pins: 1, 2, 3, 4, 5, 6, 7, 8, MT1, MT2, MT3

## MN316DVRB
designator M?
5311openCPU模组; Value: MN316DVRB
footprint M5311
pins: 1 DBG_TXD, 2 DBG_RXD, 3 SPI_SS, 4 SPI_MISO, 5 SPI_MOSI, 6 SPI_SCLK, 7 UART1_CTS, 8 UART1_RTS, 9 UART1_TXD, 10 UART1_RXD, 11 RESERVED, 12 SIM_RESET, 13 SIM_CLK, 14 SIM_DATA, 15 SIM_VCC, 16 WAKEUP_OUT, 17 RST_WKUP, 18 RESERVED, 19 RESERVED, 20 VDDEXT, 21 SYS_STATE, 22 GND, 23 GND, 24 RESERVED, 25 GND, 26 GND, 27 ANT0, 28 GND, 29 GND, 30 GND, 31 VBAT, 32 VBAT, 33 RESERVED, 34 GPIO0, 35 GPIO1, 36 SCL, 37 SDA, 38 ADC, 39 UART2_TXD, 40 UART2_RXD

## MS88SF2_V1.1
designator U?
MS88SF2_V1.1 with nRF52840 MCU inside
footprint MS88SF2_V1.1
pins: 1 GND (power), 2 P1.13(LF) (io), 3 P1.15(LF) (io), 4 P0.02 / AIN0 (LF) (io), 5 P0.29 / AIN5 (LF) (io), 6 P0.21 / AIN7 (LF) (io), 7 P0.26 (io), 8 P0.04 / AIN2 (io), 9 P0.06 (io), 10 P0.08 (io), 11 P1.09 / TRACEDATA3 (io), 12 P0.12 / TRACEDATA1 (io), 13 GND (power), 14 VDD (power), 15 VDDH (power), 16 D- (io), 17 D+ (io), 18 P0.13 (io), 19 P0.15 (io), 20 P0.18 / ~{RST} (io), 21 P0.20 (io), 22 P0.22 (io), 23 P0.24 (io), 24 P1.00 / TRACEDATA0 (io), 25 SWDIO (io), 26 SWCLK (io), 27 P0.09 / NFC1 (io), 28 P0.10 / NFC2 (io)
text: Antenna

## MX1A-C1NN
designator S?, comment Cherry_MX_LP  (value not drawn)
Cheery MX switch low profile; Manufacturer_Name: Cherry; Manufacturer_Part_Number: MX1A-C1NN; Datasheet Link: https://media.digikey.com/pdf/Data%20Sheets/Cherry%20PDFs/MX%20Series.pdf; Height: 15.2mm; Mouser Part Number: 540-MX1A-C1NN; Mouser Price/Stock: https://www.mouser.co.uk/ProductDetail/CHERRY/MX1A-C1NN/?qs=Z9t1pRjfOcwvorA009Lo0w%3D%3D
footprint MX1AC1NN
pins: 1, 2

## NanoPi_NEO_Air
designator U?
NanoPi_NEO_Air module pinout
footprint NANOPI_NEO_AIR
footprint NANOPI_NEO_AIR_NO_MHT
part A pins: 1 5V (OUT) (power), 2 USB2_D+ (io), 3 USB2_D- (io), 4 USB3_D+ (io), 5 USB3_D- (io), 6 PL11/RX/IR (io), 7 PA17/OUT/SPDIF (io), 8 I2S0_LRCK (io), 9 I2S0_BCK (io), 10 I2S0_DOUT (out), 11 I2S0_DIN (in), 12 GND (power), 13 LINEIN_MP (in), 14 LINEIN_MN (in), 15 LINEOUT_LR (out), 16 LINEOUT_LL (out), 17 UART0_RX (in), 18 UART0_TX (out), 19 5V (OUT) (power), 20 GND (power)
part B pins: 21 3V3 (OUT) (power), 22 I2C0_SDA (io), 23 I2C0_SCL (out), 24 PG11 (io), 25 GND (power), 26 PA0/UART2_TX (io), 27 PA2/UART2_RTS (io), 28 PA3/UART2_CTS (io), 29 3V3 (OUT) (power), 30 PC0/SPI0_MOSI (io), 31 PC1/SPI0_MISO (io), 32 PC2/SPI0_CLK (io), 33 5V (IN/OUT) (power), 34 5V (IN/OUT) (power), 35 GND (power), 36 PG6/UART1_TX (io), 37 PG7/UART1_RX (io), 38 PA6 (io), 39 GND (power), 40 UART1_RTS (io), 41 UART1_CTS (io), 42 GND (power), 43 PA1/UART2_RX (io), 44 PC3/SPI0_CS (io)

## NanoRX_testprobe
designator H?
NanoRX_testprobe position
footprint Nano_RX_BOT
footprint Nano_RX_TOP
footprint Nano_RX_All_Hole
pins: 1 GND, 2 5V, 3 U1TX, 4 U1RX, 5 U2RX, 6 U2TX, 7 SCL, 8 SDA, 9 MCLR, 10 3V3, 11 GND, 12 PGED, 13 PGEC, 14 antenna, 15 antenna

## PESD1CAN,215
designator U?
ESD protection for CAN bus. Clamp voltage is 40V
footprint SOT23-3 (SOT23, 3 pin)
pins: 1 (power), 2 (power), 3 (power)

## PESD2USB3UX-TR
designator D?
ESD diode for USB; Manufacturer_Name: Nexperia; Manufacturer_Part_Number: PESD2USB3UX-TR; Datasheet Link: https://assets.nexperia.com/documents/data-sheet/PESD2USB3UX-T.pdf; Height: 1.1mm; Mouser Part Number: 771-PESD2USB3UX-TR; Mouser Price/Stock: https://www.mouser.co.uk/ProductDetail/Nexperia/PESD2USB3UX-TR?qs=sPbYRqrBIVm2kDSj6qa%252BFQ%3D%3D; Arrow Part Number: PESD2USB3UX-TR; Arrow Price/Stock: https://www.arrow.com/en/products/pesd2usb3ux-tr/nexperia
footprint SOT23-3 (SOT23, 3 pin)
pins: 1 CATHODE_(DIODE_1), 2 CATHODE_(DIODE_2), 3 COMMON_ANODE

## PJ320D
designator J?
3.5mm audio jack with dual channel; ComponentLink1Description: TAOBAO; ComponentLink1URL: https://detail.tmall.com/item.htm?spm=a230r.1.14.40.4ef11b11Z0O4Xl&id=14476732895&ns=1&abbucket=9&skuId=30470522497
footprint PJ320D
pins: 2, 3, 4, 5

## PJ-301CM
designator J?
3.5mm audio jack with screw
footprint PJ-301CM (3.5 mm audio jack straight)
pins: 1, 2, 3

## Res1
designator R?  value 1K  (hidden comment: Res1)
Resistor; Published: 8-Jun-2000; LatestRevisionDate: 17-Jul-2002; LatestRevisionNote: Re-released for DXP Platform.; PackageReference: AXIAL-0.3; Publisher: Altium Limited; PackageDescription: Axial Device, Thru-Hole; 2 Leads; 0.3 in Pin Spacing
footprint AXIAL-0.3 (Axial Device, Thru-Hole; 2 Leads; 0.3 in Pin Spacing)
simulation model RESISTOR (Resistor)
signal-integrity model Res
footprint RESC2012X70N (Chip Resistor, Body 2.0x1.2mm, EIA 0805, IPC Medium Density)
footprint RESC3216X70N (Chip Resistor, Body 3.2x1.6mm, EIA 1206, IPC Medium Density)
footprint RESC1608X55N (Chip Resistor, Body 1.6x0.8mm, EIA 0603, IPC Medium Density)
pins: 1, 2

## Res1_1
designator R?, comment Res1  (value not drawn)
Resistor; Value: 4K7; Published: 8-Jun-2000; LatestRevisionDate: 17-Jul-2002; LatestRevisionNote: Re-released for DXP Platform.; PackageReference: AXIAL-0.3; Publisher: Altium Limited; PackageDescription: Axial Device, Thru-Hole; 2 Leads; 0.3 in Pin Spacing
footprint AXIAL-0.3 (Axial Device, Thru-Hole; 2 Leads; 0.3 in Pin Spacing)
simulation model RESISTOR (Resistor)
signal-integrity model Res
footprint RESC2012X70N (Chip Resistor, Body 2.0x1.2mm, EIA 0805, IPC Medium Density)
footprint RESC3216X70N (Chip Resistor, Body 3.2x1.6mm, EIA 1206, IPC Medium Density)
footprint RESC2012X70N (Chip Resistor, Body 2.0x1.2mm, EIA 0805, IPC Medium Density)
pins: 1, 2

## Res1_2
designator R?, comment Res1  (value not drawn)
Resistor; Value: 450k; Published: 8-Jun-2000; LatestRevisionDate: 17-Jul-2002; LatestRevisionNote: Re-released for DXP Platform.; PackageReference: AXIAL-0.3; Publisher: Altium Limited; PackageDescription: Axial Device, Thru-Hole; 2 Leads; 0.3 in Pin Spacing
footprint AXIAL-0.3 (Axial Device, Thru-Hole; 2 Leads; 0.3 in Pin Spacing)
simulation model RESISTOR (Resistor)
signal-integrity model Res
footprint RESC2012X70N (Chip Resistor, Body 2.0x1.2mm, EIA 0805, IPC Medium Density)
pins: 1, 2

## RES_NET
designator RN?, comment value 1K  (hidden comment: resistor network)
footprint RESCAXS50P160X320X70-8N (Resistor Pack, Body 1.6x3.2mm, 4x0603, IPC Medium Density)
pins: 1, 2, 3, 4, 5, 6, 7, 8

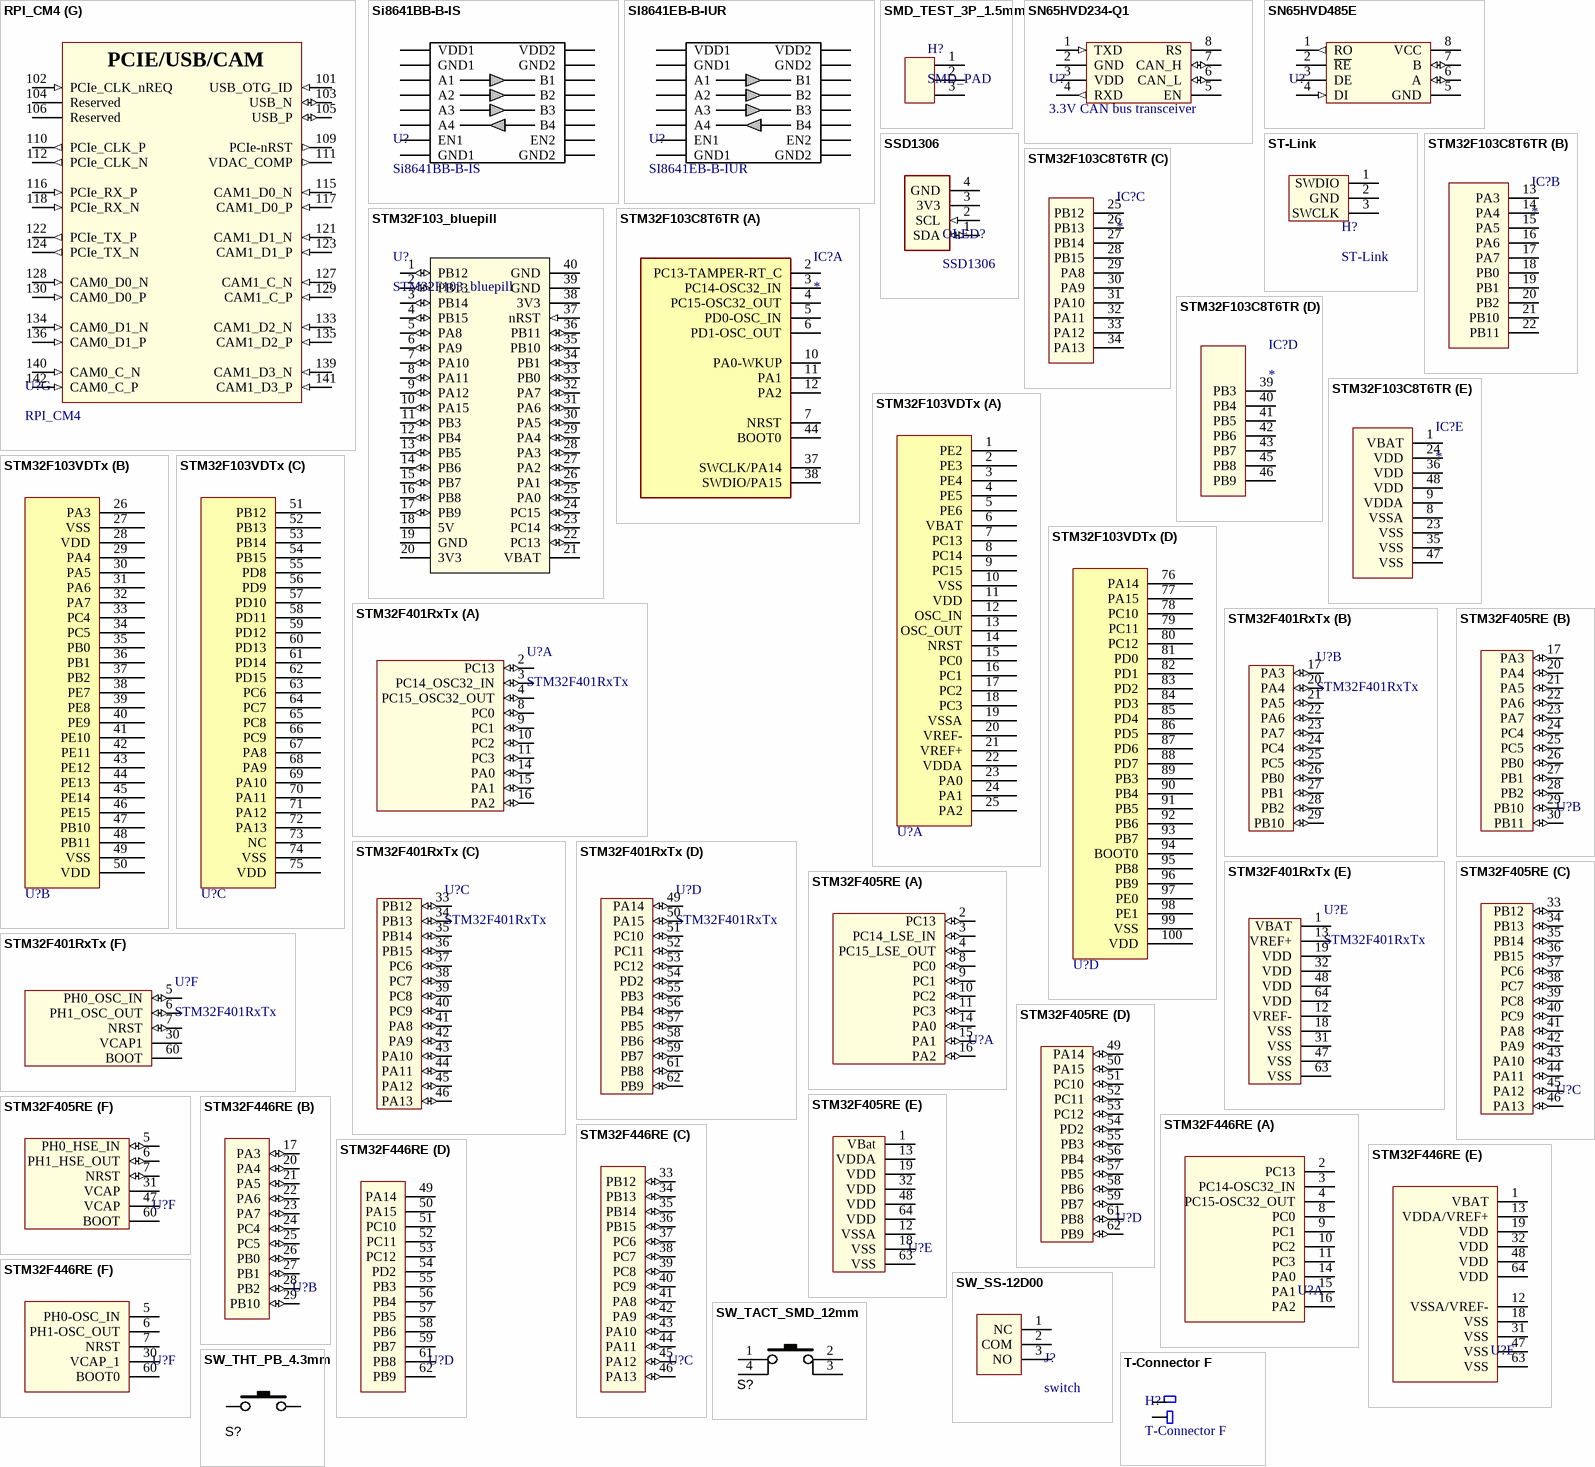
[diagram p3: symbols RPI_CM4 to T-Connector F]

## RPI_CM4
designator U?
Raspberry Pi compute module 4
footprint RPI_CM4
part A pins: 21 Pi_nLED_Activity (power), 24 GPIO26 (io), 25 GPIO21 (io), 26 GPIO19 (io), 27 GPIO20 (io), 28 GPIO13 (io), 29 GPIO16 (io), 30 GPIO6 (io), 31 GPIO12 (io), 34 GPIO5 (io), 35 ID_SC/GPIO1 (io), 36 ID_SD/GPIO0 (io), 37 GPIO7 (io), 38 GPIO11 (io), 39 GPIO8 (io), 40 GPIO9 (io), 41 GPIO25 (io), 44 GPIO10 (io), 45 GPIO24 (io), 46 GPIO22 (io), 47 GPIO23 (io), 48 GPIO27 (io), 49 GPIO18 (io), 50 GPIO17 (io), 51 GPIO15 (io), 54 GPIO4 (io), 55 GPIO14 (io), 56 GPIO3 (io), 58 GPIO2 (io), 80 GPIO45 / SCL0 (io), 82 GPIO44/ SDA0 (io)
part B pins: 1 GND (power), 2 GND (power), 7 GND (power), 8 GND (power), 13 GND (power), 14 GND (power), 22 GND (power), 23 GND (power), 32 GND (power), 33 GND (power), 42 GND (power), 43 GND (power), 52 GND (power), 53 GND (power), 59 GND (power), 60 GND (power), 65 GND (power), 66 GND (power), 71 GND (power), 74 GND (power), 77 5V_Input (power), 78 GPIO_VREF, 79 5V_Input (power), 81 5V_Input (power), 83 5V_Input (power), 84 3V3_Output (power), 85 5V_Input (power), 86 3V3_Output (power), 87 5V_Input (power), 88 1V8_Output (power), 90 1V8_Output (power), 98 GND (power), 107 GND (power), 108 GND (power), 113 GND (power), 114 GND (power), 119 GND (power), 120 GND (power), 125 GND (power), 126 GND (power), 131 GND (power), 132 GND (power), 137 GND (power), 138 GND (power), 144 GND (power), 150 GND (power), 155 GND (power), 156 GND (power), 161 GND (power), 162 GND (power), 167 GND (power), 168 GND (power), 173 GND (power), 174 GND (power), 179 GND (power), 180 GND (power), 185 GND (power), 186 GND (power), 191 GND (power), 192 GND (power), 197 GND (power), 198 GND (power)
part C pins: 143 HDMI1_HOTPLUG (in), 145 HDMI1_SDA (io), 146 HDMI1_TX2_P (out), 147 HDMI1_SCL (in), 148 HDMI1_TX2_N (out), 149 HDMI_CEC (in), 151 HDMI0_CEC (in), 152 HDMI1_TX1_P (out), 153 HDMI0_HOTPLUG (in), 154 HDMI1_TX1_N (out), 157 DSI0_D0_N (out), 158 HDMI1_TX0_P (out), 159 DSI0_D0_P (out), 160 HDMI1_TX0_N (out), 163 DSI0_D1_N (out), 164 HDMI1_CLK_P (out), 165 DSI0_D1_P (out), 166 HDMI1_CLK_N (out), 169 DSI0_C_N (out), 170 HDMI0_TX2_P (out), 171 DSI0_C_P (out), 172 HDMI0_TX2_N (out), 175 DSI1_D0_N (out), 176 HDMI0_TX1_P (out), 177 DSI1_D0_P (out), 178 HDMI0_TX1_N (out), 181 DSI1_D1_N (out), 182 HDMI0_TX0_P (out), 183 DSI1_D1_P (out), 184 HDMI0_TX0_N (out), 187 DSI1_C_N (out), 188 HDMI0_CLK_P (out), 189 DSI1_C_P (out), 190 HDMI0_CLK_N (out), 193 DSI1_D2_N (out), 194 DSI1_D3_N (out), 195 DSI1_D2_P (out), 196 DSI1_D3_P (out), 199 HDMI0_SDA (io), 200 HDMI0_SCL (io)
part D pins: 3 ETH_3P (io), 4 ETH_1P (io), 5 ETH_3N (io), 6 ETH_1N (io), 9 ETH_2N (io), 10 ETH_0N (io), 11 ETH_2P (io), 12 ETH_0P (io), 15 ETH_nLED3 (oc), 16 ETH_SYNC_IN (io), 17 ETH_nLED2 (oc), 18 ETH_SYNC_OUT (io), 19 ETH_nLED1 (oc), 20 EEPROM_nWP
part E pins: 57 SD_CLK (io), 61 SD_DAT3 (io), 62 SD_CMD (io), 63 SD_DAT0 (io), 64 SD_DAT5 (io), 67 SD_DAT1 (io), 68 SD_DAT4 (io), 69 SD_DAT2 (io), 70 SD_DAT7 (io), 72 SD_DAT6 (io), 73 SD_VDD_Override (io), 75 SD_PWR_ON (out), 76 Reserved
part F pins: 89 WL_nDISABLE, 91 BT_nDISABLE, 92 RUN_PG / NRST, 93 nRPIBOOT, 94 AnalogIP1, 95 PI_LED_nPWR (out), 96 AnalogIP0, 97 Camera_GPIO, 99 GLOBAL_EN (in), 100 nEXTRST (out)
part G pins: 101 USB_OTG_ID (in), 102 PCIe_CLK_nREQ (in), 103 USB_N (io), 104 Reserved, 105 USB_P (io), 106 Reserved, 109 PCIe-nRST (out), 110 PCIe_CLK_P (out), 111 VDAC_COMP (out), 112 PCIe_CLK_N (out), 115 CAM1_D0_N (in), 116 PCIe_RX_P (in), 117 CAM1_D0_P (in), 118 PCIe_RX_N (in), 121 CAM1_D1_N (in), 122 PCIe_TX_P (out), 123 CAM1_D1_P (in), 124 PCIe_TX_N (out), 127 CAM1_C_N (in), 128 CAM0_D0_N (in), 129 CAM1_C_P (in), 130 CAM0_D0_P (in), 133 CAM1_D2_N (in), 134 CAM0_D1_N (in), 135 CAM1_D2_P (in), 136 CAM0_D1_P (in), 139 CAM1_D3_N (in), 140 CAM0_C_N (in), 141 CAM1_D3_P (in), 142 CAM0_C_P (in)
part A text: GPIO
part B text: POWER
part C text: HDMI/DP
part D text: ETHERNET
part E text: SDcard (lite only)
part F text: RPI Control
part G text: PCIE/USB/CAM

## Si8641BB-B-IS
designator U?
isolator for SPI 3 forward 1 reverse isolator
footprint SOIC127P600X175-16AN (SOIC, 1.27mm pitch, 16 pin, Body 9.9x3.90mm)
footprint SOIC127P600X175-16N (SOIC16 package)
pins: 1 VDD1, 2 GND1, 3 A1, 4 A2, 5 A3, 6 A4, 7 EN1, 8 GND1, 9 GND2, 10 EN2, 11 B4, 12 B3, 13 B2, 14 B1, 15 GND2, 16 VDD2

## SI8641EB-B-IUR
designator U?
isolator for SPI 3 forward 1 reverse isolator
footprint QSOP16
pins: 1 VDD1, 2 GND1, 3 A1, 4 A2, 5 A3, 6 A4, 7 EN1, 8 GND1, 9 GND2, 10 EN2, 11 B4, 12 B3, 13 B2, 14 B1, 15 GND2, 16 VDD2

## SMD_TEST_3P_1.5mm
designator H?, comment SMD_PAD
SMD test pad with 1.5mm pitch 3 pos
footprint SMD_TEST_3P
pins: 1, 2, 3

## SN65HVD234-Q1
designator U?, comment 3.3V CAN bus transceiver
3.3V CAN bus transceiver up to 1Mbps
footprint SOIC127P600X175-8AN (SOIC, 8-Leads, Body 4.9x3.9mm, Pitch 1.27mm, IPC Medium Density)
pins: 1 TXD (in), 2 GND (power), 3 VDD (power), 4 RXD (out), 5 EN, 6 CAN_L (io), 7 CAN_H (io), 8 RS

## SN65HVD485E
designator U?  (value not drawn)
SN65HVD485E 5V supply, 3.3V tolerant I/O
footprint SOIC127P600X175-8AN (SOIC, 8-Leads, Body 4.9x3.9mm, Pitch 1.27mm, IPC Medium Density)
pins: 1 RO (out), 2 ~{RE} (power), 3 DE (power), 4 DI (in), 5 GND (power), 6 A (io), 7 B (io), 8 VCC (power)

## SSD1306
designator OLED?
OLED Display driver
footprint SSD1306 (OLED display)
pins: 1 SDA (io), 2 SCL (in), 3 3V3 (power), 4 GND (power)

## ST-Link
designator H?
ST-Link header with silkscreen
footprint ST-Link (Connector; Header; 3 Position)
pins: 1 SWDIO (power), 2 GND (power), 3 SWCLK (power)

## STM32F103_bluepill
designator U?
footprint STM32F103_bluepill
pins: 1 PB12 (io), 2 PB13 (io), 3 PB14 (io), 4 PB15 (io), 5 PA8 (io), 6 PA9 (io), 7 PA10 (io), 8 PA11 (io), 9 PA12 (io), 10 PA15 (io), 11 PB3 (io), 12 PB4 (io), 13 PB5 (io), 14 PB6 (io), 15 PB7 (io), 16 PB8 (io), 17 PB9 (io), 18 5V (power), 19 GND (power), 20 3V3 (power), 21 VBAT (power), 22 PC13 (io), 23 PC14 (io), 24 PC15 (io), 25 PA0 (io), 26 PA1 (io), 27 PA2 (io), 28 PA3 (io), 29 PA4 (io), 30 PA5 (io), 31 PA6 (io), 32 PA7 (io), 33 PB0 (io), 34 PB1 (io), 35 PB10 (io), 36 PB11 (io), 37 nRST (in), 38 3V3 (power), 39 GND (power), 40 GND (power)

## STM32F103C8T6TR
designator IC?
Integrated Circuit; Manufacturer_Name: STMicroelectronics; Manufacturer_Part_Number: STM32F103C8T6TR; Datasheet Link: http://media.digikey.com/pdf/Data%20Sheets/ST%20Microelectronics%20PDFS/STM32F103x8,B.pdf; Height: 1.6mm; Mouser Part Number: 511-STM32F103C8T6TR; Mouser Price/Stock: https://www.mouser.co.uk/ProductDetail/STMicroelectronics/STM32F103C8T6TR?qs=5HwTSiuA5HDxFj62n06yag%3D%3D; Arrow Part Number: STM32F103C8T6TR; Arrow Price/Stock: https://www.arrow.com/en/products/stm32f103c8t6tr/stmicroelectronics
footprint QFP50P900X900X160-48N
part A pins: 2 PC13-TAMPER-RT_C, 3 PC14-OSC32_IN, 4 PC15-OSC32_OUT, 5 PD0-OSC_IN, 6 PD1-OSC_OUT, 7 NRST, 10 PA0-WKUP, 11 PA1, 12 PA2, 37 SWCLK/PA14, 38 SWDIO/PA15, 44 BOOT0
part B pins: 13 PA3, 14 PA4, 15 PA5, 16 PA6, 17 PA7, 18 PB0, 19 PB1, 20 PB2, 21 PB10, 22 PB11
part C pins: 25 PB12, 26 PB13, 27 PB14, 28 PB15, 29 PA8, 30 PA9, 31 PA10, 32 PA11, 33 PA12, 34 PA13
part D pins: 39 PB3, 40 PB4, 41 PB5, 42 PB6, 43 PB7, 45 PB8, 46 PB9
part E pins: 1 VBAT, 8 VSSA, 9 VDDA, 23 VSS, 24 VDD, 35 VSS, 36 VDD, 47 VSS, 48 VDD

## STM32F103VDTx
designator U?  (value not drawn)
Flash: 384kB; ADC: 12 bit; Core: ARM Cortex M3; clock: 72MHz; Pin: 100
footprint LQFP100
part A pins: 1 PE2, 2 PE3, 3 PE4, 4 PE5, 5 PE6, 6 VBAT, 7 PC13, 8 PC14, 9 PC15, 10 VSS, 11 VDD, 12 OSC_IN, 13 OSC_OUT, 14 NRST, 15 PC0, 16 PC1, 17 PC2, 18 PC3, 19 VSSA, 20 VREF-, 21 VREF+, 22 VDDA, 23 PA0, 24 PA1, 25 PA2
part B pins: 26 PA3, 27 VSS, 28 VDD, 29 PA4, 30 PA5, 31 PA6, 32 PA7, 33 PC4, 34 PC5, 35 PB0, 36 PB1, 37 PB2, 38 PE7, 39 PE8, 40 PE9, 41 PE10, 42 PE11, 43 PE12, 44 PE13, 45 PE14, 46 PE15, 47 PB10, 48 PB11, 49 VSS, 50 VDD
part C pins: 51 PB12, 52 PB13, 53 PB14, 54 PB15, 55 PD8, 56 PD9, 57 PD10, 58 PD11, 59 PD12, 60 PD13, 61 PD14, 62 PD15, 63 PC6, 64 PC7, 65 PC8, 66 PC9, 67 PA8, 68 PA9, 69 PA10, 70 PA11, 71 PA12, 72 PA13, 73 NC, 74 VSS, 75 VDD
part D pins: 76 PA14, 77 PA15, 78 PC10, 79 PC11, 80 PC12, 81 PD0, 82 PD1, 83 PD2, 84 PD3, 85 PD4, 86 PD5, 87 PD6, 88 PD7, 89 PB3, 90 PB4, 91 PB5, 92 PB6, 93 PB7, 94 BOOT0, 95 PB8, 96 PB9, 97 PE0, 98 PE1, 99 VSS, 100 VDD

## STM32F401RxTx
designator U?
footprint LQFP64
part A pins: 2 PC13 (io), 3 PC14_OSC32_IN (io), 4 PC15_OSC32_OUT (io), 8 PC0 (io), 9 PC1 (io), 10 PC2 (io), 11 PC3 (io), 14 PA0 (io), 15 PA1 (io), 16 PA2 (io)
part B pins: 17 PA3 (io), 20 PA4 (io), 21 PA5 (io), 22 PA6 (io), 23 PA7 (io), 24 PC4 (io), 25 PC5 (io), 26 PB0 (io), 27 PB1 (io), 28 PB2 (io), 29 PB10 (io)
part C pins: 33 PB12 (io), 34 PB13 (io), 35 PB14 (io), 36 PB15 (io), 37 PC6 (io), 38 PC7 (io), 39 PC8 (io), 40 PC9 (io), 41 PA8 (io), 42 PA9 (io), 43 PA10 (io), 44 PA11 (io), 45 PA12 (io), 46 PA13 (io)
part D pins: 49 PA14 (io), 50 PA15 (io), 51 PC10 (io), 52 PC11 (io), 53 PC12 (io), 54 PD2 (io), 55 PB3 (io), 56 PB4 (io), 57 PB5 (io), 58 PB6 (io), 59 PB7 (io), 61 PB8 (io), 62 PB9 (io)
part E pins: 1 VBAT (power), 12 VREF- (power), 13 VREF+ (power), 18 VSS (power), 19 VDD (power), 31 VSS (power), 32 VDD (power), 47 VSS (power), 48 VDD (power), 63 VSS (power), 64 VDD (power)
part F pins: 5 PH0_OSC_IN (io), 6 PH1_OSC_OUT (io), 7 NRST (io), 30 VCAP1 (power), 60 BOOT (power)

## STM32F405RE
designator U?  (value not drawn)
STM32F405RE 64 pin package, Cortex M4 core with up to
footprint LQFP64
part A pins: 2 PC13 (io), 3 PC14_LSE_IN (io), 4 PC15_LSE_OUT (io), 8 PC0 (io), 9 PC1 (io), 10 PC2 (io), 11 PC3 (io), 14 PA0 (io), 15 PA1 (io), 16 PA2 (io)
part B pins: 17 PA3 (io), 20 PA4 (io), 21 PA5 (io), 22 PA6 (io), 23 PA7 (io), 24 PC4 (io), 25 PC5 (io), 26 PB0 (io), 27 PB1 (io), 28 PB2 (io), 29 PB10 (io), 30 PB11 (io)
part C pins: 33 PB12 (io), 34 PB13 (io), 35 PB14 (io), 36 PB15 (io), 37 PC6 (io), 38 PC7 (io), 39 PC8 (io), 40 PC9 (io), 41 PA8 (io), 42 PA9 (io), 43 PA10 (io), 44 PA11 (io), 45 PA12 (io), 46 PA13 (io)
part D pins: 49 PA14 (io), 50 PA15 (io), 51 PC10 (io), 52 PC11 (io), 53 PC12 (io), 54 PD2 (io), 55 PB3 (io), 56 PB4 (io), 57 PB5 (io), 58 PB6 (io), 59 PB7 (io), 61 PB8 (io), 62 PB9 (io)
part E pins: 1 VBat (power), 12 VSSA (power), 13 VDDA (power), 18 VSS (power), 19 VDD (power), 32 VDD (power), 48 VDD (power), 63 VSS (power), 64 VDD (power)
part F pins: 5 PH0_HSE_IN (io), 6 PH1_HSE_OUT (io), 7 NRST (io), 31 VCAP (power), 47 VCAP (power), 60 BOOT

## STM32F446RE
designator U?  (value not drawn)
part A pins: 2 PC13, 3 PC14-OSC32_IN, 4 PC15-OSC32_OUT, 8 PC0, 9 PC1, 10 PC2, 11 PC3, 14 PA0, 15 PA1, 16 PA2
part B pins: 17 PA3 (io), 20 PA4 (io), 21 PA5 (io), 22 PA6 (io), 23 PA7 (io), 24 PC4 (io), 25 PC5 (io), 26 PB0 (io), 27 PB1 (io), 28 PB2 (io), 29 PB10 (io)
part C pins: 33 PB12 (io), 34 PB13 (io), 35 PB14 (io), 36 PB15 (io), 37 PC6 (io), 38 PC7 (io), 39 PC8 (io), 40 PC9 (io), 41 PA8 (io), 42 PA9 (io), 43 PA10 (io), 44 PA11 (io), 45 PA12 (io), 46 PA13 (io)
part D pins: 49 PA14, 50 PA15, 51 PC10, 52 PC11, 53 PC12, 54 PD2, 55 PB3, 56 PB4, 57 PB5, 58 PB6, 59 PB7, 61 PB8, 62 PB9
part E pins: 1 VBAT, 12 VSSA/VREF-, 13 VDDA/VREF+, 18 VSS, 19 VDD, 31 VSS, 32 VDD, 47 VSS, 48 VDD, 63 VSS, 64 VDD
part F pins: 5 PH0-OSC_IN, 6 PH1-OSC_OUT, 7 NRST, 30 VCAP_1, 60 BOOT0

## SW_SS-12D00
designator J?, comment switch
switch with 2mm pitch, 3 pin
footprint SS-12D00
pins: 1 NC, 2 COM, 3 NO

## SW_TACT_SMD_12mm
designator S?  (value not drawn)
Switch, tact, 12mm stem; Manufacturer 1: Bond-Tact; Manufacturer Part Number 1: TS-1143-WP-300; SCDType: spec; Function: Speed; Package / Case: 6.5x6.5mm; 4.3mm stem; Material: Brass/Nylon/Ag plating
footprint SW_TACT_SMD_12mm (Tactile switch SMD 12x12mm)
pins: 1, 2, 3, 4

## SW_THT_PB_4.3mm
designator S?  (value not drawn)
Switch, tact, 4.3mm stem; Manufacturer 1: Bond-Tact; Manufacturer Part Number 1: TS-1143-WP-300; SCDType: spec; Function: Speed; Package / Case: 6.5x6.5mm; 4.3mm stem; Material: Brass/Nylon/Ag plating
footprint TACT-SWITCH-TS1143 (Bondtact sealed TH tact switch)
footprint TACT_SWT-SMD-4.4
pins: 1, 2

## T-Connector F
designator H?
T connector female
footprint T-Connector Female
pins: N -, P +

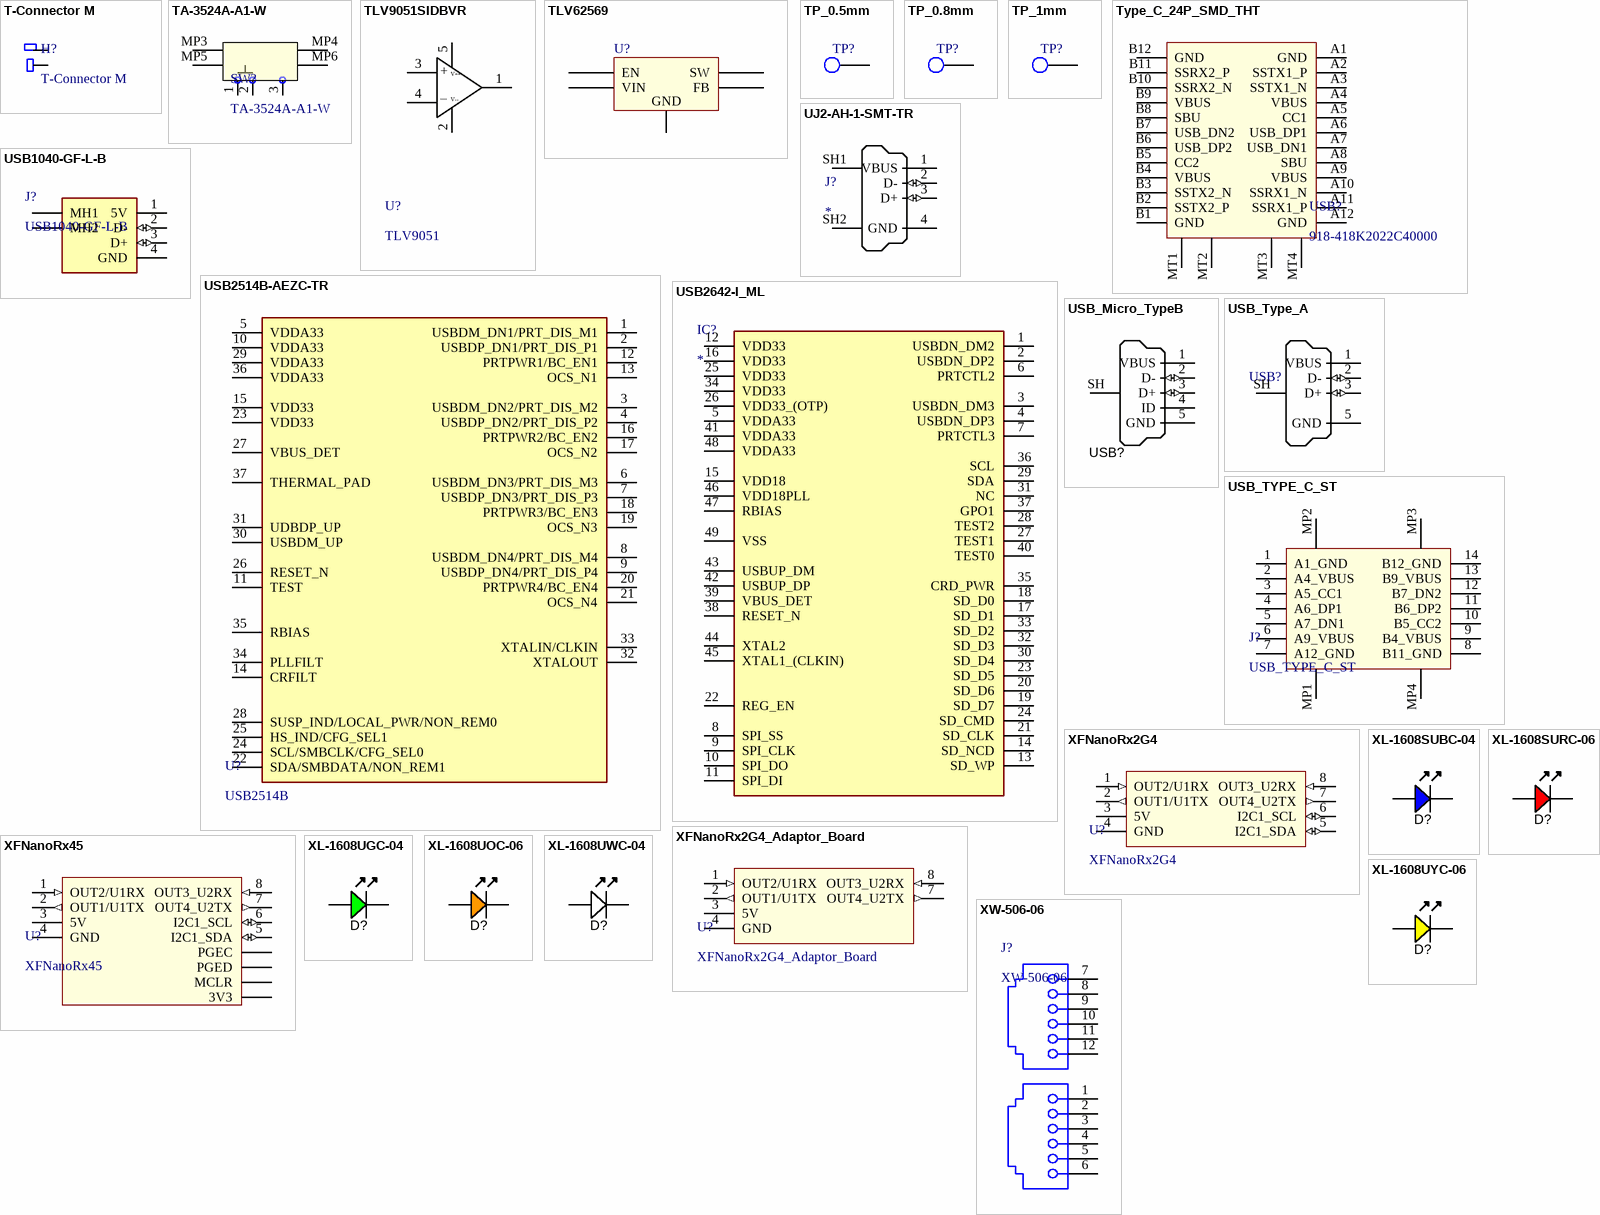
[diagram p4: symbols T-Connector M to XW-506-06]

## T-Connector M
designator H?
footprint T-Connector Male
pins: N 2, P 2

## TA-3524A-A1-W
designator SW?
footprint TA-3524A-A1-W
pins: 1 (power), 2 (power), 3 (power), MP3 (power), MP4 (power), MP5 (power), MP6 (power)

## TLV9051SIDBVR
designator U?, comment TLV9051
TLV9051 single channel opamp from TI
footprint SOT23-5
pins: 1 OUT, 2 V- (power), 3 IN+, 4 IN-, 5 V+ (power)
text: +; V++; _; V--

## TLV62569
designator U?  (value not drawn)
2-A High Efficiency Synchronous Buck Converter in SOT Package; Manufacturer: TI; Vin: 2.5-5.5V; Iout(max): 2A
footprint SOT23-5
pins: 1 EN, 2 GND, 3 SW, 4 VIN, 5 FB

## TP_0.5mm
designator TP?  (value not drawn)
testpoint with 0.5mm diameter
footprint SMD_PAD_0.5mm_CIRCLE
pins: 1

## TP_0.8mm
designator TP?  (value not drawn)
testpoint with 0.8mm diameter
footprint SMD_PAD_0.8mm_CIRCLE
pins: 1

## TP_1mm
designator TP?  (value not drawn)
testpoint with 1mm diameter
footprint SMD_PAD_1mm_CIRCLE
pins: 1

## Type_C_24P_SMD_THT
designator USB?, comment 918-418K2022C40000
ComponentLink1Description: LCSC; ComponentLink1URL: https://lcsc.com/product-detail/span-style-background-color-ff0-USB-span-Connectors_Jing-Extension-of-the-Electronic-Co-918-418K2022C40000_C168700.html
footprint USB-Type-C 24 contact SMD+THD (918-418K2022C40000)
pins: A1 GND, A2 SSTX1_P, A3 SSTX1_N, A4 VBUS, A5 CC1, A6 USB_DP1, A7 USB_DN1, A8 SBU, A9 VBUS, A10 SSRX1_N, A11 SSRX1_P, A12 GND, B1 GND, B2 SSTX2_P, B3 SSTX2_N, B4 VBUS, B5 CC2, B6 USB_DP2, B7 USB_DN2, B8 SBU, B9 VBUS, B10 SSRX2_N, B11 SSRX2_P, B12 GND, MT1, MT2, MT3, MT4

## UJ2-AH-1-SMT-TR
designator J?
Connector; Manufacturer_Name: CUI Inc.; Manufacturer_Part_Number: UJ2-AH-1-SMT-TR; Datasheet Link: http://www.cui.com/product/resource/uj2-ah-smt.pdf; Mouser Part Number: 490-UJ2-AH-1-SMT-TR; Mouser Price/Stock: https://www.mouser.co.uk/ProductDetail/CUI-Devices/UJ2-AH-1-SMT-TR?qs=%2FacZuiyY%252B4bMRuKlU7nMjQ%3D%3D; Arrow Part Number: UJ2-AH-1-SMT-TR; Arrow Price/Stock: https://www.arrow.com/en/products/uj2-ah-1-smt-tr/cui-devices
footprint UJ2-AH-1-SMT-TR
pins: 1 VBUS (power), 2 D- (io), 3 D+ (io), 4 GND (power), SH1 Shell, SH2 Shell

## USB1040-GF-L-B
designator J?
USB Type A Vertical Connector; Manufacturer_Name: GCT (GLOBAL CONNECTOR TECHNOLOGY); Datasheet Link: https://gct.co/files/drawings/usb1040.pdf; Height: 13.95mm; Manufacturer_Part_Number: USB1040-GF-L-B; Mouser Part Number: 640-USB1040-GF-L-B; Mouser Price/Stock: https://www.mouser.co.uk/ProductDetail/GCT/USB1040-GF-L-B?qs=KUoIvG%2F9IlYqiLIcchup7w%3D%3D
footprint USB1040GFLB
pins: 1 5V (power), 2 D- (io), 3 D+ (io), 4 GND (power), MH1, MH2

## USB2514B-AEZC-TR
designator U?, comment USB2514B
USB 2.0 HS 4 port; Manufacturer_Name: Microchip; Manufacturer_Part_Number: USB2514B-AEZC-TR; Datasheet Link: http://ww1.microchip.com/downloads/en/DeviceDoc/00001692C.pdf; Height: 1mm; Mouser Part Number: 886-USB2514B-AEZC-TR; Mouser Price/Stock: https://www.mouser.co.uk/ProductDetail/Microchip-Technology/USB2514B-AEZC-TR?qs=pA5MXup5wxH7Kbx1p0cM6A%3D%3D; Arrow Part Number: USB2514B-AEZC-TR; Arrow Price/Stock: https://www.arrow.com/en/products/usb2514b-aezc-tr/microchip-technology
footprint QFN50P600X600X100-37N-D
pins: 1 USBDM_DN1/PRT_DIS_M1, 2 USBDP_DN1/PRT_DIS_P1, 3 USBDM_DN2/PRT_DIS_M2, 4 USBDP_DN2/PRT_DIS_P2, 5 VDDA33, 6 USBDM_DN3/PRT_DIS_M3, 7 USBDP_DN3/PRT_DIS_P3, 8 USBDM_DN4/PRT_DIS_M4, 9 USBDP_DN4/PRT_DIS_P4, 10 VDDA33, 11 TEST, 12 PRTPWR1/BC_EN1, 13 OCS_N1, 14 CRFILT, 15 VDD33, 16 PRTPWR2/BC_EN2, 17 OCS_N2, 18 PRTPWR3/BC_EN3, 19 OCS_N3, 20 PRTPWR4/BC_EN4, 21 OCS_N4, 22 SDA/SMBDATA/NON_REM1, 23 VDD33, 24 SCL/SMBCLK/CFG_SEL0, 25 HS_IND/CFG_SEL1, 26 RESET_N, 27 VBUS_DET, 28 SUSP_IND/LOCAL_PWR/NON_REM0, 29 VDDA33, 30 USBDM_UP, 31 UDBDP_UP, 32 XTALOUT, 33 XTALIN/CLKIN, 34 PLLFILT, 35 RBIAS, 36 VDDA33, 37 THERMAL_PAD

## USB2642-I_ML
designator IC?
Integrated Circuit; Manufacturer_Name: Microchip; Manufacturer_Part_Number: USB2642-I/ML; Datasheet Link: https://www.arrow.com/en/products/usb2642-iml/microchip-technology; Height: 1mm; Mouser Part Number: 579-USB2642-I/ML; Mouser Price/Stock: https://www.mouser.co.uk/ProductDetail/Microchip-Technology/USB2642-I-ML?qs=QaDcGzfVzPPIqPyBH4Ei1Q%3D%3D; Arrow Part Number: USB2642-I/ML; Arrow Price/Stock: https://www.arrow.com/en/products/usb2642-iml/microchip-technology
footprint QFN50P700X700X100-49N-D
pins: 1 USBDN_DM2, 2 USBDN_DP2, 3 USBDN_DM3, 4 USBDN_DP3, 5 VDDA33, 6 PRTCTL2, 7 PRTCTL3, 8 SPI_SS, 9 SPI_CLK, 10 SPI_DO, 11 SPI_DI, 12 VDD33, 13 SD_WP, 14 SD_NCD, 15 VDD18, 16 VDD33, 17 SD_D1, 18 SD_D0, 19 SD_D7, 20 SD_D6, 21 SD_CLK, 22 REG_EN, 23 SD_D5, 24 SD_CMD, 25 VDD33, 26 VDD33_(OTP), 27 TEST1, 28 TEST2, 29 SDA, 30 SD_D4, 31 NC, 32 SD_D3, 33 SD_D2, 34 VDD33, 35 CRD_PWR, 36 SCL, 37 GPO1, 38 RESET_N, 39 VBUS_DET, 40 TEST0, 41 VDDA33, 42 USBUP_DP, 43 USBUP_DM, 44 XTAL2, 45 XTAL1_(CLKIN), 46 VDD18PLL, 47 RBIAS, 48 VDDA33, 49 VSS

## USB_Micro_TypeB
designator USB?, comment USB Micro Type B  (value not drawn)
Connector SMD USB Micro Type B middle mount; Manufacturer 1: Molex Inc; Manufacturer Part Number 1: 47491-0001; SCDType: undef; Package / Case: SMD; Supplier 1: Digi-Key; Supplier Part Number 1: WM17142CT-ND
footprint USB_Micro-B_Molex_SMD
footprint Model Name (Footprint not found)
footprint USB_Micro-B_FCI_SMD
footprint USB_MICRO-B
pins: 1 VBUS (power), 2 D- (io), 3 D+ (io), 4 ID, 5 GND (power), SH Shell

## USB_Type_A
designator USB?, comment USB Type A  (value not drawn)
footprint USB A
footprint USB_TYPE_A_MALE
pins: 1 VBUS (power), 2 D- (io), 3 D+ (io), 5 GND (power), SH Shell

## USB_TYPE_C_ST
designator J?
https://item.taobao.com/item.htm?spm=a230r.1.14.14.7bbbdb07BKz7YL&id=597956990616&ns=1&abbucket=19#detail
footprint Type_C_ST
footprint USB_TYPE_C_ST_TH
pins: 1 A1_GND, 2 A4_VBUS, 3 A5_CC1, 4 A6_DP1, 5 A7_DN1, 6 A9_VBUS, 7 A12_GND, 8 B11_GND, 9 B4_VBUS, 10 B5_CC2, 11 B6_DP2, 12 B7_DN2, 13 B9_VBUS, 14 B12_GND, MP1, MP2, MP3, MP4